# Altium integrated library rodgel.IntLib: 579 symbols (part 1 of 4)
Pins are listed as number, name and electrical type; pins without a type are passive.

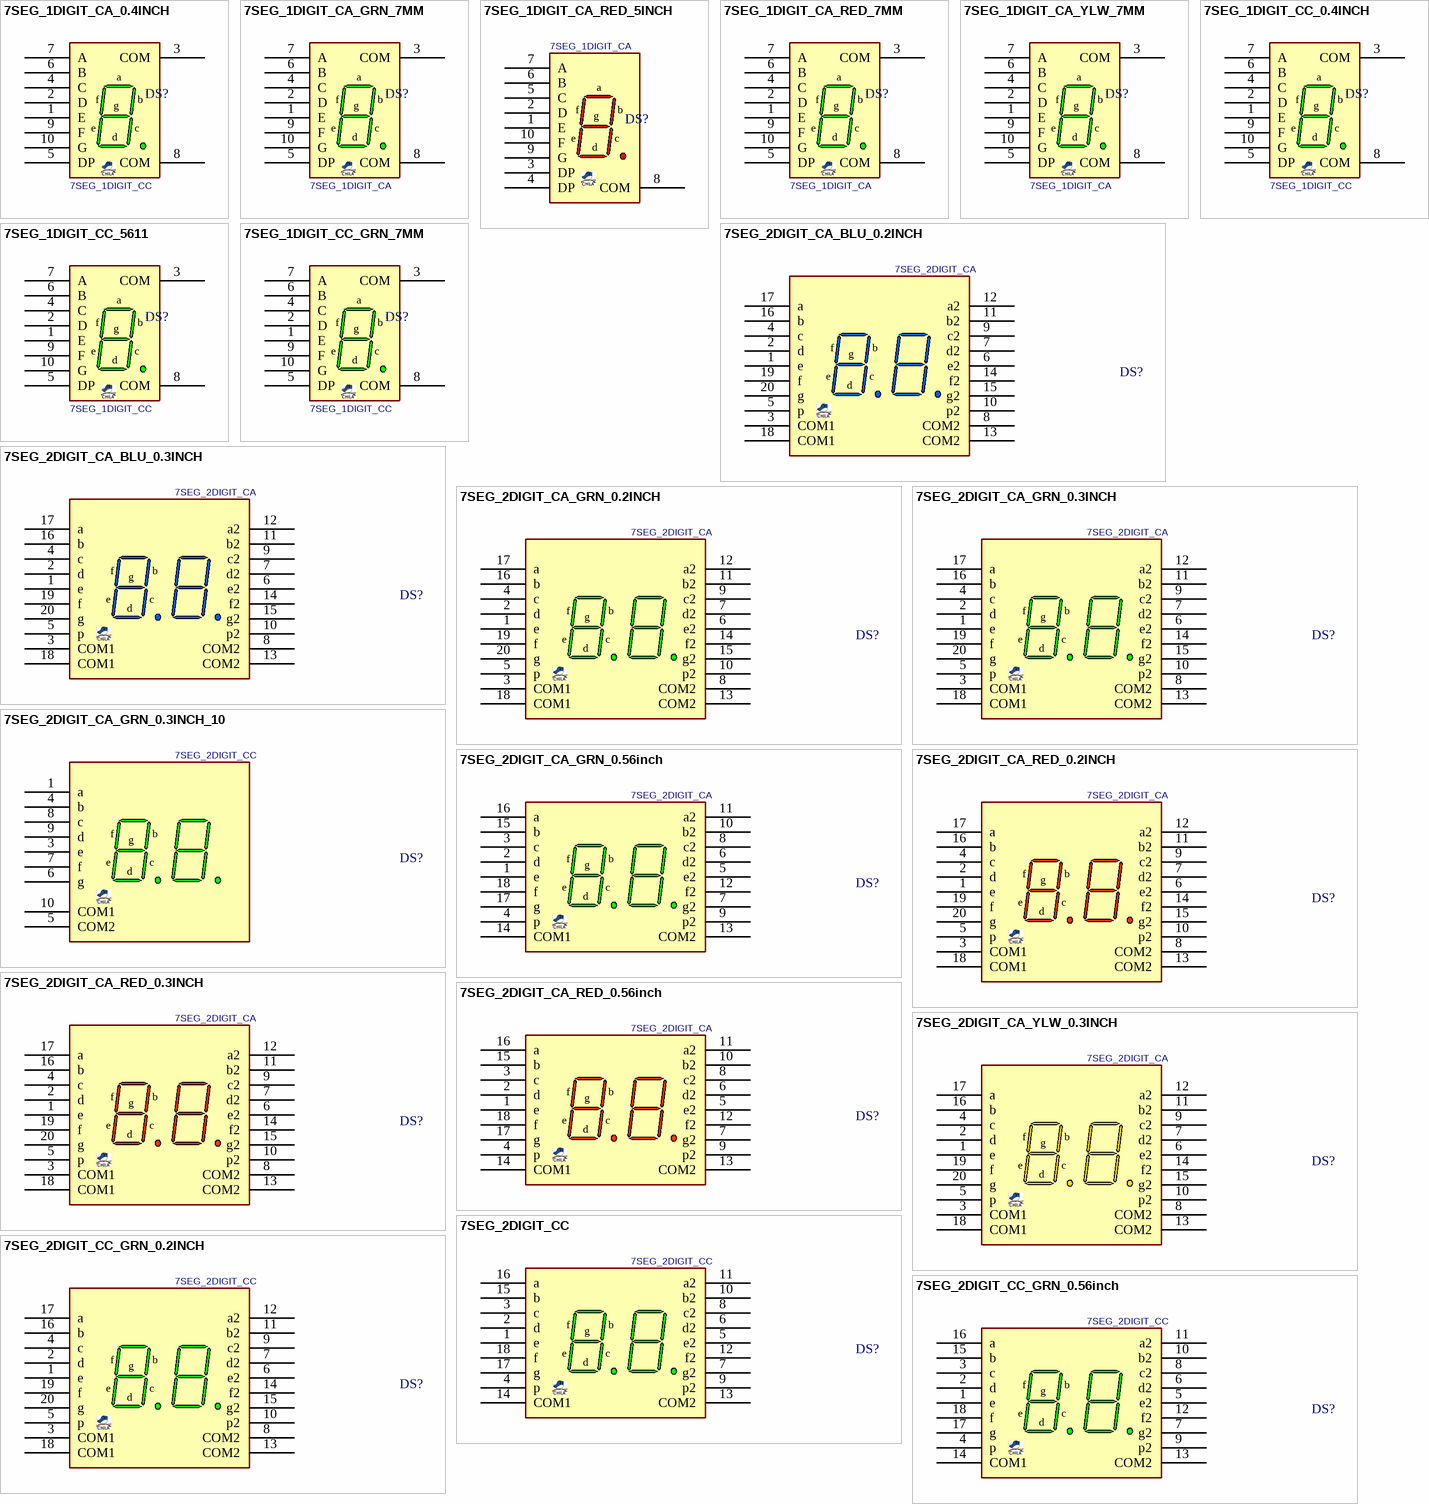
[diagram p0: symbols 7SEG_1DIGIT_CA_0.4INCH to 7SEG_2DIGIT_CC_GRN_0.56inch]

## 7SEG_1DIGIT_CA_0.4INCH
designator DS?, comment 7SEG_1DIGIT_CC
7SEGMENT, 1DIGIT, common cathode; VALUE: 7SEG_1DIGIT_CC
footprint 7SEGX1_10_3911 (7SEG single 10pin Pitch: 2.54mm  3911 0.39" 10X13mm)
pins: 1 E, 2 D, 3 COM, 4 C, 5 DP, 6 B, 7 A, 8 COM, 9 F, 10 G
2 alternate drawings of the same symbol

## 7SEG_1DIGIT_CA_GRN_7MM
designator DS?, comment 7SEG_1DIGIT_CA
7SEGMENT, 1DIGIT, common ANODE; MANF: Kingbright; MANF_P#: ACSA02-41SGWA-F01; PARAM: 20mA, 2.2v, -40~85oC; PRICE: 2.5$; VALUE: 7SEG_1DIGIT_CA
footprint 7SEGX1_10_02INCH (7SEG single 10pin Pitch: 1.44mm  0.2" 10X7mm)
pins: 1 E, 2 D, 3 COM, 4 C, 5 DP, 6 B, 7 A, 8 COM, 9 F, 10 G
2 alternate drawings of the same symbol

## 7SEG_1DIGIT_CA_RED_5INCH
designator DS?, comment 7SEG_1DIGIT_CA
7SEGMENT, 1DIGIT, common ANODE; MANF: Kingbright; MANF_P#: SA50-31SRWA, SA50-21EWA, SNS-50101BSR; PARAM2: 18.5~25VF; PARAM: 20mA, -40~85oC; PRICE: 30000t, 27$; VALUE: 7SEG_1DIGIT_CA
footprint 7SEGX1_5INCH (7SEG single 5INCH, 10pin, Pitch: 5.08mm, 180X108mm)
pins: 1 E, 2 D, 3 DP, 4 DP, 5 C, 6 B, 7 A, 8 COM, 9 G, 10 F
2 alternate drawings of the same symbol

## 7SEG_1DIGIT_CA_RED_7MM
designator DS?, comment 7SEG_1DIGIT_CA
7SEGMENT, 1DIGIT, common ANODE; MANF: Kingbright; MANF_P#: ACSC02-41SURKWA-F01, ACSA02-41SURKWA-F01, ACSA02-41EWA-F01; PARAM: 30mA, 2v, -40~85oC; PRICE: 2.5$; VALUE: 7SEG_1DIGIT_CA
footprint 7SEGX1_10_02INCH (7SEG single 10pin Pitch: 1.44mm  0.2" 10X7mm)
pins: 1 E, 2 D, 3 COM, 4 C, 5 DP, 6 B, 7 A, 8 COM, 9 F, 10 G
2 alternate drawings of the same symbol

## 7SEG_1DIGIT_CA_YLW_7MM
designator DS?, comment 7SEG_1DIGIT_CA
7SEGMENT, 1DIGIT, common ANODE; MANF: Kingbright; MANF_P#: ACSA02-41YWA-F01; PARAM: 20mA, 2.2v, -40~85oC; PRICE: 2.5$; VALUE: 7SEG_1DIGIT_CA
footprint 7SEGX1_10_02INCH (7SEG single 10pin Pitch: 1.44mm  0.2" 10X7mm)
pins: 1 E, 2 D, 3 COM, 4 C, 5 DP, 6 B, 7 A, 8 COM, 9 F, 10 G
2 alternate drawings of the same symbol

## 7SEG_1DIGIT_CC_0.4INCH
designator DS?, comment 7SEG_1DIGIT_CC
7SEGMENT, 1DIGIT, common cathode; VALUE: 7SEG_1DIGIT_CC
footprint 7SEGX1_10_3911 (7SEG single 10pin Pitch: 2.54mm  3911 0.39" 10X13mm)
pins: 1 E, 2 D, 3 COM, 4 C, 5 DP, 6 B, 7 A, 8 COM, 9 F, 10 G
2 alternate drawings of the same symbol

## 7SEG_1DIGIT_CC_5611
designator DS?, comment 7SEG_1DIGIT_CC
7SEGMENT, 1DIGIT, common cathode; VALUE: 7SEG_1DIGIT_CC
footprint 7SEGX1_5611 (7SEG single 10pin Pitch: 2.54mm  19X12.5mm)
pins: 1 E, 2 D, 3 COM, 4 C, 5 DP, 6 B, 7 A, 8 COM, 9 F, 10 G
2 alternate drawings of the same symbol

## 7SEG_1DIGIT_CC_GRN_7MM
designator DS?, comment 7SEG_1DIGIT_CC
7SEGMENT, 1DIGIT, common cathode; MANF: Kingbright; MANF_P#: ACSC02-41SGWA-F01, ACSC02-41CGKWA-F01; PARAM: 20mA, 2.2v, -40~85oC; PRICE: 2.5$; VALUE: 7SEG_1DIGIT_CC
footprint 7SEGX1_10_02INCH (7SEG single 10pin Pitch: 1.44mm  0.2" 10X7mm)
pins: 1 E, 2 D, 3 COM, 4 C, 5 DP, 6 B, 7 A, 8 COM, 9 F, 10 G
2 alternate drawings of the same symbol

## 7SEG_2DIGIT_CA_BLU_0.2INCH
designator DS?, comment 7SEG_2DIGIT_CA
7SEGMENT, 2DIGIT, common Anode; MANF: Kingbright; MANF_P#: ACDA02-41PBWA/A-F01; PARAM: 20mA, 3.2V, -40~85oC; PRICE: 7.6$; VALUE: 7SEG_2DIGIT_CA
footprint 7SEGX2_20_02INCH (7SEG 2DIGIT 20pin Pitch: 1.44mm  0.2", 14X10mm)
pins: 1 e, 2 d, 3 COM1, 4 c, 5 p, 6 e2, 7 d2, 8 COM2, 9 c2, 10 p2, 11 b2, 12 a2, 13 COM2, 14 f2, 15 g2, 16 b, 17 a, 18 COM1, 19 f, 20 g

## 7SEG_2DIGIT_CA_BLU_0.3INCH
designator DS?, comment 7SEG_2DIGIT_CA
7SEGMENT, 2DIGIT, common Anode; MANF: Kingbright; MANF_P#: ACDA03-41PBWA/A-F01; PARAM: 10~20mA, 2~2.2V, -40~85oC; PRICE: 7.6$; VALUE: 7SEG_2DIGIT_CA
footprint 7SEGX2_20_03INCH (7SEG 2DIGIT 20pin Pitch: 1.44mm  0.3", 14.8X12mm)
pins: 1 e, 2 d, 3 COM1, 4 c, 5 p, 6 e2, 7 d2, 8 COM2, 9 c2, 10 p2, 11 b2, 12 a2, 13 COM2, 14 f2, 15 g2, 16 b, 17 a, 18 COM1, 19 f, 20 g

## 7SEG_2DIGIT_CA_GRN_0.2INCH
designator DS?, comment 7SEG_2DIGIT_CA
7SEGMENT, 2DIGIT, common Anode; MANF: Kingbright; MANF_P#: ACDA02-41SGWA-F01; PARAM: 10~20mA, 2~2.2V, -40~85oC; PRICE: 3.3$; VALUE: 7SEG_2DIGIT_CA
footprint 7SEGX2_20_02INCH (7SEG 2DIGIT 20pin Pitch: 1.44mm  0.2", 14X10mm)
pins: 1 e, 2 d, 3 COM1, 4 c, 5 p, 6 e2, 7 d2, 8 COM2, 9 c2, 10 p2, 11 b2, 12 a2, 13 COM2, 14 f2, 15 g2, 16 b, 17 a, 18 COM1, 19 f, 20 g

## 7SEG_2DIGIT_CA_GRN_0.3INCH
designator DS?, comment 7SEG_2DIGIT_CA
7SEGMENT, 2DIGIT, common Anode; MANF: Kingbright; MANF_P#: ACDA03-41SGWA-F01; PARAM: 10~20mA, 2~2.2V, -40~85oC; PRICE: 5.8$; VALUE: 7SEG_2DIGIT_CA
footprint 7SEGX2_20_03INCH (7SEG 2DIGIT 20pin Pitch: 1.44mm  0.3", 14.8X12mm)
pins: 1 e, 2 d, 3 COM1, 4 c, 5 p, 6 e2, 7 d2, 8 COM2, 9 c2, 10 p2, 11 b2, 12 a2, 13 COM2, 14 f2, 15 g2, 16 b, 17 a, 18 COM1, 19 f, 20 g

## 7SEG_2DIGIT_CA_GRN_0.3INCH_10
designator DS?, comment 7SEG_2DIGIT_CC
7SEGMENT, 2DIGIT, common cathode; MANF: Kingbright; MANF_P#: DA03-11GWA; PARAM: 10~20mA, 2~2.2V, -40~85oC; PRICE: 1.8$; VALUE: 7SEG_2DIGIT_CC
footprint 7SEGX2_10_03INCH (7SEG 2DIGIT 10pin Pitch: 2.54mm  0.3", 15.5X15mm)
pins: 1 a, 3 e, 4 b, 5 COM2, 6 g, 7 f, 8 c, 9 d, 10 COM1

## 7SEG_2DIGIT_CA_GRN_0.56inch
designator DS?, comment 7SEG_2DIGIT_CA
7SEGMENT, 2DIGIT, common Anode; MANF: Broadcom, Avago, Lite-On, Kingbright; MANF_P#: HDSP-521G, LTD-6410G, DA56-11GWA; PARAM: 10~20mA, 2~2.2V, -35~85oC; PRICE: 2$; VALUE: 7SEG_2DIGIT_CA
footprint 7SEGX2_16 (7SEG 2DIGIT 16pin Pitch: 2.54mm    5621 0.56", 19X25mm)
pins: 1 e, 2 d, 3 c, 4 p, 5 e2, 6 d2, 7 g2, 8 c2, 9 p2, 10 b2, 11 a2, 12 f2, 13 COM2, 14 COM1, 15 b, 16 a, 17 g, 18 f

## 7SEG_2DIGIT_CA_RED_0.2INCH
designator DS?, comment 7SEG_2DIGIT_CA
7SEGMENT, 2DIGIT, common cathode; MANF: Kingbright; MANF_P#: ACDA02-41EWA-F01, ACDA02-41SURKWA-F01; PARAM: 10~20mA, 2~2.2V, -40~85oC; PRICE: 4.3$; VALUE: 7SEG_2DIGIT_CA
footprint 7SEGX2_20_02INCH (7SEG 2DIGIT 20pin Pitch: 1.44mm  0.2", 14X10mm)
pins: 1 e, 2 d, 3 COM1, 4 c, 5 p, 6 e2, 7 d2, 8 COM2, 9 c2, 10 p2, 11 b2, 12 a2, 13 COM2, 14 f2, 15 g2, 16 b, 17 a, 18 COM1, 19 f, 20 g

## 7SEG_2DIGIT_CA_RED_0.3INCH
designator DS?, comment 7SEG_2DIGIT_CA
7SEGMENT, 2DIGIT, common Anode; MANF: Kingbright; MANF_P#: ACDA03-41EWA-F01; PARAM: 10~20mA, 2~2.2V, -40~85oC; PRICE: 5.6$; VALUE: 7SEG_2DIGIT_CA
footprint 7SEGX2_20_03INCH (7SEG 2DIGIT 20pin Pitch: 1.44mm  0.3", 14.8X12mm)
pins: 1 e, 2 d, 3 COM1, 4 c, 5 p, 6 e2, 7 d2, 8 COM2, 9 c2, 10 p2, 11 b2, 12 a2, 13 COM2, 14 f2, 15 g2, 16 b, 17 a, 18 COM1, 19 f, 20 g

## 7SEG_2DIGIT_CA_RED_0.56inch
designator DS?, comment 7SEG_2DIGIT_CA
7SEGMENT, 2DIGIT, common Anode; MANF: Broadcom, Avago, Lite-On; MANF_P#: HDSP-521E, LTD-6910HR, LTD-6710P; PARAM: 10~20mA, 2~2.2V, -35~85oC; PRICE: 2$; VALUE: 7SEG_2DIGIT_CA
footprint 7SEGX2_16 (7SEG 2DIGIT 16pin Pitch: 2.54mm    5621 0.56", 19X25mm)
pins: 1 e, 2 d, 3 c, 4 p, 5 e2, 6 d2, 7 g2, 8 c2, 9 p2, 10 b2, 11 a2, 12 f2, 13 COM2, 14 COM1, 15 b, 16 a, 17 g, 18 f

## 7SEG_2DIGIT_CA_YLW_0.3INCH
designator DS?, comment 7SEG_2DIGIT_CA
7SEGMENT, 2DIGIT, common Anode; MANF: Kingbright; MANF_P#: ACDA03-41YWA-F01; PARAM: 10~20mA, 2~2.2V, -40~85oC; PRICE: 5.6$; VALUE: 7SEG_2DIGIT_CA
footprint 7SEGX2_20_03INCH (7SEG 2DIGIT 20pin Pitch: 1.44mm  0.3", 14.8X12mm)
pins: 1 e, 2 d, 3 COM1, 4 c, 5 p, 6 e2, 7 d2, 8 COM2, 9 c2, 10 p2, 11 b2, 12 a2, 13 COM2, 14 f2, 15 g2, 16 b, 17 a, 18 COM1, 19 f, 20 g

## 7SEG_2DIGIT_CC
designator DS?
7SEGMENT, 2DIGIT, common cathode; VALUE: 7SEG_2DIGIT_CC
footprint 7SEGX2_16 (7SEG 2DIGIT 16pin Pitch: 2.54mm    5621 0.56", 19X25mm)
pins: 1 e, 2 d, 3 c, 4 p, 5 e2, 6 d2, 7 g2, 8 c2, 9 p2, 10 b2, 11 a2, 12 f2, 13 COM2, 14 COM1, 15 b, 16 a, 17 g, 18 f

## 7SEG_2DIGIT_CC_GRN_0.2INCH
designator DS?, comment 7SEG_2DIGIT_CC
7SEGMENT, 2DIGIT, common cathode; MANF: Kingbright; MANF_P#: ACDC02-41SGWA-F01; PARAM: 10~20mA, 2~2.2V, -40~85oC; PRICE: 3.3$; VALUE: 7SEG_2DIGIT_CC
footprint 7SEGX2_20_02INCH (7SEG 2DIGIT 20pin Pitch: 1.44mm  0.2", 14X10mm)
pins: 1 e, 2 d, 3 COM1, 4 c, 5 p, 6 e2, 7 d2, 8 COM2, 9 c2, 10 p2, 11 b2, 12 a2, 13 COM2, 14 f2, 15 g2, 16 b, 17 a, 18 COM1, 19 f, 20 g

## 7SEG_2DIGIT_CC_GRN_0.56inch
designator DS?, comment 7SEG_2DIGIT_CC
7SEGMENT, 2DIGIT, common cathode; MANF: Broadcom, Avago; MANF_P#: HDSP-523G; PARAM: 10~20mA, 2~2.2V, -35~85oC; PRICE: 2$; VALUE: 7SEG_2DIGIT_CC
footprint 7SEGX2_16 (7SEG 2DIGIT 16pin Pitch: 2.54mm    5621 0.56", 19X25mm)
pins: 1 e, 2 d, 3 c, 4 p, 5 e2, 6 d2, 7 g2, 8 c2, 9 p2, 10 b2, 11 a2, 12 f2, 13 COM2, 14 COM1, 15 b, 16 a, 17 g, 18 f

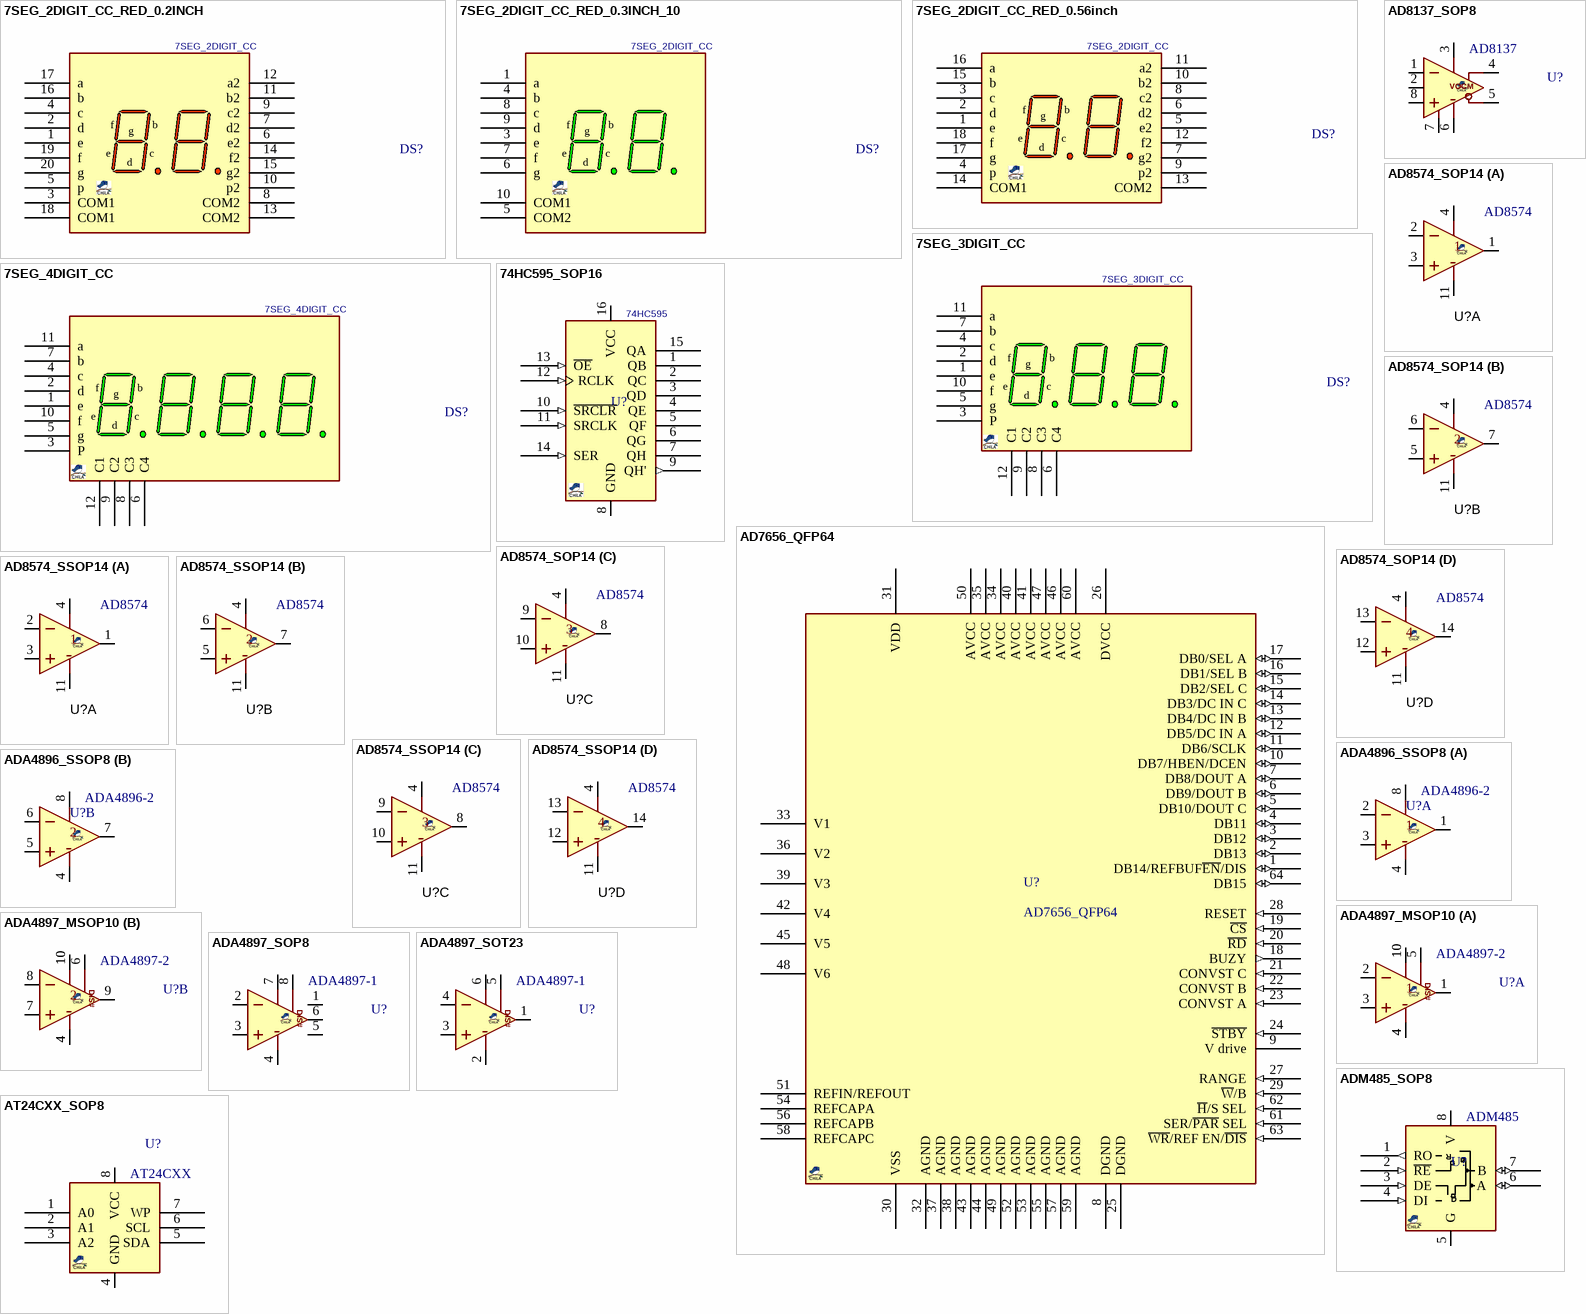
[diagram p1: symbols 7SEG_2DIGIT_CC_RED_0.2INCH to AT24CXX_SOP8]

## 7SEG_2DIGIT_CC_RED_0.2INCH
designator DS?, comment 7SEG_2DIGIT_CC
7SEGMENT, 2DIGIT, common cathode; MANF: Kingbright; MANF_P#: ACDC02-41SURKWA-F01; PARAM: 10~20mA, 2~2.2V, -40~85oC; PRICE: 4.3$; VALUE: 7SEG_2DIGIT_CC
footprint 7SEGX2_20_02INCH (7SEG 2DIGIT 20pin Pitch: 1.44mm  0.2", 14X10mm)
pins: 1 e, 2 d, 3 COM1, 4 c, 5 p, 6 e2, 7 d2, 8 COM2, 9 c2, 10 p2, 11 b2, 12 a2, 13 COM2, 14 f2, 15 g2, 16 b, 17 a, 18 COM1, 19 f, 20 g

## 7SEG_2DIGIT_CC_RED_0.3INCH_10
designator DS?, comment 7SEG_2DIGIT_CC
7SEGMENT, 2DIGIT, common cathode; MANF: Kingbright; MANF_P#: DC03-11EWA; PARAM: 10~20mA, 2~2.2V, -40~85oC; PRICE: 1.8$; VALUE: 7SEG_2DIGIT_CC
footprint 7SEGX2_10_03INCH (7SEG 2DIGIT 10pin Pitch: 2.54mm  0.3", 15.5X15mm)
pins: 1 a, 3 e, 4 b, 5 COM2, 6 g, 7 f, 8 c, 9 d, 10 COM1

## 7SEG_2DIGIT_CC_RED_0.56inch
designator DS?, comment 7SEG_2DIGIT_CC
7SEGMENT, 2DIGIT, common cathode; MANF: Broadcom, Avago; MANF_P#: HDSP-523E; PARAM: 10~20mA, 2~2.2V, -35~85oC; PRICE: 2$; VALUE: 7SEG_2DIGIT_CC
footprint 7SEGX2_16 (7SEG 2DIGIT 16pin Pitch: 2.54mm    5621 0.56", 19X25mm)
pins: 1 e, 2 d, 3 c, 4 p, 5 e2, 6 d2, 7 g2, 8 c2, 9 p2, 10 b2, 11 a2, 12 f2, 13 COM2, 14 COM1, 15 b, 16 a, 17 g, 18 f

## 7SEG_3DIGIT_CC
designator DS?
7SEGMENT, 3DIGIT, common cathode; VALUE: 7SEG_3DIGIT_CC
footprint 7SEGX3_12 (7SEG 3DIGIT 12pin Pitch: 2.54mm  5641 0.56", 19X37.5mm)
pins: 1 e, 2 d, 3 P, 4 c, 5 g, 6 C4, 7 b, 8 C3, 9 C2, 10 f, 11 a, 12 C1

## 7SEG_4DIGIT_CC
designator DS?
7SEGMENT, 4DIGIT, common cathode 5641; MANF_P#: DPY-4CK; VALUE: 7SEG_4DIGIT_CC
footprint 7SEGX4_12 (7SEG 4DIGIT 12pin Pitch: 2.54mm    5641 0.56", 19X50.3mm)
pins: 1 e, 2 d, 3 P, 4 c, 5 g, 6 C4, 7 b, 8 C3, 9 C2, 10 f, 11 a, 12 C1

## 74HC595_SOP16
designator U?, comment 74HC595
Shift Register, 8-Bit, with 3-State Output Registers; MANF: DIODES, ON, NXP; MANF_P#: 74HC595S16, 74HC595DR2G, 74HC595D; PARAM2: 2~6VIN; PARAM: 8mA; VALUE: 74HC595
footprint SO_16 (SOP, SOIC, 3.9mm width, 1.27mm pitch,)
pins: 1 QB (hiz), 2 QC (hiz), 3 QD (hiz), 4 QE (hiz), 5 QF (hiz), 6 QG (hiz), 7 QH (hiz), 8 GND (power), 9 QH' (out), 10 ~{SRCLR} (in), 11 SRCLK (in), 12 RCLK (in), 13 ~{OE} (in), 14 SER (in), 15 QA (hiz), 16 VCC (power)

## AD7656_QFP64
designator U?
ADC, 16-bit, 250Ksps, 6CH, SAR, simultaneous; DESC: pin compatible AD7656-16bit, AD7657-14bit, AD7658-12bit; MANF: Analog Devices; VALUE: AD7656
footprint QFG50_64 (A64 (CYPRESS), TQFP64, LQFP64, VQ44, VQG44, 10X10mm, Pitch: 0.5mm)
pins: 1 DB14/REFBUF~{EN}/DIS (io), 2 DB13 (io), 3 DB12 (io), 4 DB11 (io), 5 DB10/DOUT C (io), 6 DB9/DOUT B (io), 7 DB8/DOUT A (io), 8 DGND, 9 V drive, 10 DB7/HBEN/DCEN (io), 11 DB6/SCLK (io), 12 DB5/DC IN A (io), 13 DB4/DC IN B (io), 14 DB3/DC IN C (io), 15 DB2/SEL C (io), 16 DB1/SEL B (io), 17 DB0/SEL A (io), 18 BUZY (out), 19 ~{CS} (in), 20 ~{RD} (in), 21 CONVST C (in), 22 CONVST B (in), 23 CONVST A (in), 24 ~{STBY} (in), 25 DGND, 26 DVCC, 27 RANGE (in), 28 RESET (in), 29 ~{W}/B (in), 30 VSS, 31 VDD, 32 AGND, 33 V1 (hiz), 34 AVCC, 35 AVCC, 36 V2 (hiz), 37 AGND, 38 AGND, 39 V3 (hiz), 40 AVCC, 41 AVCC, 42 V4 (hiz), 43 AGND, 44 AGND, 45 V5 (hiz), 46 AVCC, 47 AVCC, 48 V6 (hiz), 49 AGND, 50 AVCC, 51 REFIN/REFOUT, 52 AGND, 53 AGND, 54 REFCAPA, 55 AGND, 56 REFCAPB, 57 AGND, 58 REFCAPC, 59 AGND, 60 AVCC, 61 SER/~{PAR} SEL (in), 62 ~{H}/S SEL (in), 63 ~{WR}/REF EN/~{DIS} (in), 64 DB15 (io)

## AD8137_SOP8
designator U?, comment AD8137
AMP, Differential, LowCost, LowPWR; MANF: Analog Devices; MANF_P#: AD8137YRZ; PARAM2: 2.7~12v (±1.35~6V); PARAM: BW 110MHz, 450V/uS, -40~125°C; PRICE: 2.8$; VALUE: AD8137
footprint SO_8
pins: 1 IN-, 2 OCM (power), 3 V+, 4 OP, 5 ON, 6 V-, 7 EN, 8 IN+
text: VOCM

## AD8574_SOP14
designator U?, comment AD8574
AMP, Quad, Zero-Drift, Single-Supply, 10pA input; MANF: Analog Devices Inc; MANF_P#: AD8574ARZ; PARAM2: 2.7~5V; PARAM: 1uV OFFSET, 10pA input, -40~125°C; PRICE: 7.3$; VALUE: AD8574
footprint SO_14 (SOP, SOIC, 3.9mm width, 1.27mm pitch,)
part A pins: 1 OUT, 2 IN-, 3 IN+, 4 V+, 11 V-
part B pins: 4 V+, 5 IN+, 6 IN-, 7 OUT, 11 V-
part C pins: 4 V+, 8 OUT, 9 IN-, 10 IN+, 11 V-
part D pins: 4 V+, 11 V-, 12 IN+, 13 IN-, 14 OUT

## AD8574_SSOP14
designator U?, comment AD8574
AMP, Quad, Zero-Drift, Single-Supply, 10pA input; MANF: Analog Devices Inc; MANF_P#: AD8574TRU; PARAM2: 2.7~5V; PARAM: 1uV OFFSET, 10pA input, -40~125°C; PRICE: 7.3$; VALUE: AD8574
footprint SOG65_14 (PW TSSOP (TI), MO-153-AB (JEDEC), 14Lead, pitch: 0.65mm, 5x4.4x1.2mm)
part A pins: 1 OUT, 2 IN-, 3 IN+, 4 V+, 11 V-
part B pins: 4 V+, 5 IN+, 6 IN-, 7 OUT, 11 V-
part C pins: 4 V+, 8 OUT, 9 IN-, 10 IN+, 11 V-
part D pins: 4 V+, 11 V-, 12 IN+, 13 IN-, 14 OUT

## ADA4896_SSOP8
designator U?, comment ADA4896-2
AMP, Low Noise, LowPower, LowDistortion; MANF: Analog Devices; MANF_P#: ADA4896-2ARMZ; PARAM2: 3~10v,  1nV/√Hz, 230MHz BW; PARAM: 3mA power, -40~125°C; PRICE: 7.7$; VALUE: ADA4896-2
footprint SOG65_8_3 (pitch: 0.65mm, 3.0mmX3.0mm, SSOP DCT SM8 (TI), TSSOP8, MICRO8, DGK, MSOP8, RM-8, MS8, MSOP-8, usop8/8uSOP)
pins on every part: 4 V-, 8 V+
part A pins: 1 OUT, 2 IN-, 3 IN+
part B pins: 5 IN+, 6 IN-, 7 OUT

## ADA4897_MSOP10
designator U?, comment ADA4897-2
AMP, Low Noise, LowPower, LowDistortion; MANF: Analog Devices; MANF_P#: ADA4897-2ARMZ; PARAM2: 3~10v,  1nV/√Hz, 230MHz BW; PARAM: 3mA power, -40~125°C; PRICE: 7.7$; VALUE: ADA4897-2
footprint SOG50_10 (MSSOP10, 3X3mm 0.5mm pitch, S-PDSO10_S300-50, MSOP10, 10uSOP/usop10 (Dallas), MO-187BA(JEDEC))
pins on every part: 4 V-, 4 V-, 10 V+, 10 V+
part A pins: 1 OUT, 2 IN-, 3 IN+, 5 DISABLE1#
part B pins: 6 DISABLE1#, 7 IN+, 8 IN-, 9 OUT
part A text: DIS#
part B text: DIS#

## ADA4897_SOP8
designator U?, comment ADA4897-1
AMP, Low Noise, LowPower, LowDistortion; MANF: Analog Devices; MANF_P#: ADA4897-1ARZ; PARAM2: 3~10v,  1nV/√Hz, 230MHz BW; PARAM: 3mA power, -40~125°C; PRICE: 5$; VALUE: ADA4897-1
footprint SO_8 (SOP-8, 5x3.9mm body 1.27mm pitch, SOT96-1, M08A, S8, SOIC8, VO8, MS-012AA(JEDEC), R-8, 8S2, VOG8)
pins: 1 NC, 2 IN-, 3 IN+, 4 V-, 5 NC, 6 OUT, 7 V+, 8 DISABLE#
text: DIS#

## ADA4897_SOT23
designator U?, comment ADA4897-1
AMP, Low Noise, LowPower, LowDistortion; MANF: Analog Devices; MANF_P#: ADA4897-1ARJZ; PARAM2: 3~10v,  1nV/√Hz, 230MHz BW; PARAM: 3mA power, -40~125°C; PRICE: 6$; VALUE: ADA4897-1
footprint SOT23_6 (SOT-23-6, DDC, MICRO6, SOT-26, SOT457, SuperSOT6, TSOP-6, HMC313, MO-178AB, MO-193AA, TSOT)
pins: 1 OUT, 2 V-, 3 IN+, 4 IN-, 5 DISABLE#, 6 V+
text: DIS#

## ADM485_SOP8
designator U?, comment ADM485
RS-485 Transceiver, 5V, SOP-8, ±7V Ground Difference Between Devices on the Bus; MANF_P#: ADM485AR; MANF: Analog Devices; PRICE: 4000toman@PAYA; VALUE: ADM485
footprint SO_8
pins: 1 RO (out), 2 ~{RE} (in), 3 DE (in), 4 DI (in), 5 G, 6 A (io), 7 B (io), 8 V
text: R; D

## AT24CXX_SOP8
designator U?, comment AT24CXX
EEPROM, I2C,; Value: AT24CXX
footprint SO_8
pins: 1 A0, 2 A1, 3 A2, 4 GND, 5 SDA, 6 SCL, 7 WP, 8 VCC

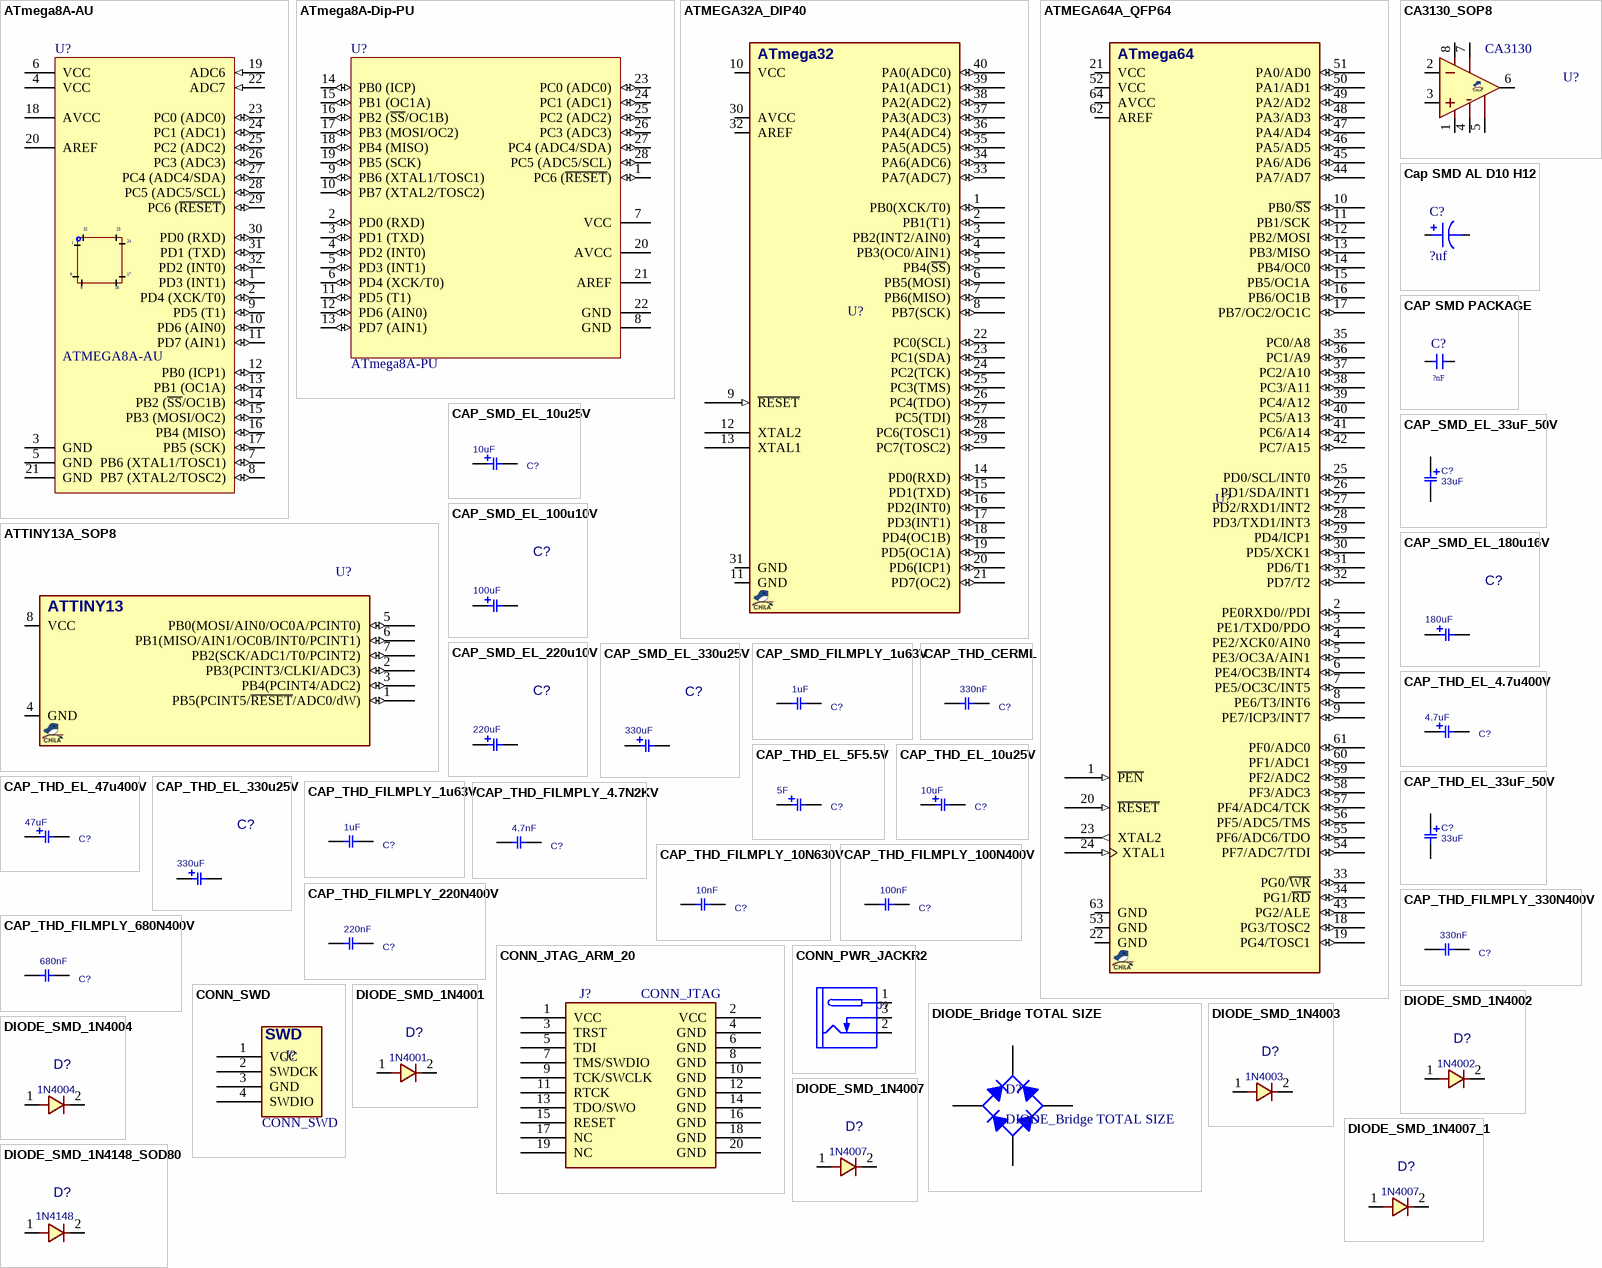
[diagram p2: symbols ATmega8A-AU to DIODE_SMD_1N4148_SOD80]

## ATmega8A-AU
designator U?  value ATMEGA8A-AU
8-bit AVR Microcontroller, 8KB Flash, 512 Bytes EEPROM, 1KB SRAM, 32-pin TQFP, Industrial Grade (-40°C to 85°C); Desc: 32A; Code Anbar: h.k; Category: IC; Package: TQFP32
footprint TQFP32 @ (TQFP, 32-Leads, Body 9.3x9.3mm (max), Pitch 0.80mm, IPC Medium Density)
pins: 1 PD3 (INT1) (io), 2 PD4 (XCK/T0) (io), 3 GND (power), 4 VCC (power), 5 GND (power), 6 VCC (power), 7 PB6 (XTAL1/TOSC1) (io), 8 PB7 (XTAL2/TOSC2) (io), 9 PD5 (T1) (io), 10 PD6 (AIN0) (io), 11 PD7 (AIN1) (io), 12 PB0 (ICP1) (io), 13 PB1 (OC1A) (io), 14 PB2 (~{SS}/OC1B) (io), 15 PB3 (MOSI/OC2) (io), 16 PB4 (MISO) (io), 17 PB5 (SCK) (io), 18 AVCC (power), 19 ADC6 (in), 20 AREF (power), 21 GND (power), 22 ADC7 (in), 23 PC0 (ADC0) (io), 24 PC1 (ADC1) (io), 25 PC2 (ADC2) (io), 26 PC3 (ADC3) (io), 27 PC4 (ADC4/SDA) (io), 28 PC5 (ADC5/SCL) (io), 29 PC6 (~{RESET}) (io), 30 PD0 (RXD) (io), 31 PD1 (TXD) (io), 32 PD2 (INT0) (io)

## ATmega8A-Dip-PU
designator U?, comment ATmega8A-PU
8-bit AVR Microcontroller, 8KB Flash, 512 Bytes EEPROM, 1KB SRAM, 28-pin PDIP, Industrial Grade (-40°C to 85°C); Published: 2017-1-5; DatasheetVersion: 2017-1-5; PackageVersion: 2017-1-5; PackageReference: 28P3; Publisher: Abbas Basereh; PackageDescription: 28-lead (0.300"/7.62mm Wide) Plastic Dual Inline Package (PDIP); Supplier 1: Digi-Key; Supplier Part Number 1: ATMEGA8A-PU-ND; Supplier 2: Farnell; Supplier Part Number 2: 1748534; Supplier 3: Mouser; Supplier Part Number 3: 556-ATMEGA8A-PU; ComponentLink1Description: Manufacturer Link; ComponentLink1URL: http://www.atmel.com/products/avr/default.asp?; ComponentLink2Description: ATmega8A Datasheet; ComponentLink2URL: http://www.atmel.com/dyn/resources/prod_documents/doc8159.pdf; ComponentLink3Description: ATmega8A Summary; ComponentLink3URL: http://www.atmel.com/dyn/resources/prod_documents/8159S.pdf; ComponentLink4Description: Atmel.com Home; ComponentLink4URL: http://www.atmel.com
footprint 28P3 (DIP, 28-Leads, Row Spacing 7.62mm, Pitch 2.54mm, Body 34.67x7.3mm)
pins: 1 PC6 (~{RESET}) (io), 2 PD0 (RXD) (io), 3 PD1 (TXD) (io), 4 PD2 (INT0) (io), 5 PD3 (INT1) (io), 6 PD4 (XCK/T0) (io), 7 VCC (power), 8 GND (power), 9 PB6 (XTAL1/TOSC1) (io), 10 PB7 (XTAL2/TOSC2) (io), 11 PD5 (T1) (io), 12 PD6 (AIN0) (io), 13 PD7 (AIN1) (io), 14 PB0 (ICP) (io), 15 PB1 (OC1A) (io), 16 PB2 (~{SS}/OC1B) (io), 17 PB3 (MOSI/OC2) (io), 18 PB4 (MISO) (io), 19 PB5 (SCK) (io), 20 AVCC (power), 21 AREF, 22 GND (power), 23 PC0 (ADC0) (io), 24 PC1 (ADC1) (io), 25 PC2 (ADC2) (io), 26 PC3 (ADC3) (io), 27 PC4 (ADC4/SDA) (io), 28 PC5 (ADC5/SCL) (io)

## ATMEGA32A_DIP40
designator U?, comment ATMEGA32  (value not drawn)
MCU, AVR, 8-Bit, 32KB, 2KB RAM, 16MHz; MANF_P#: ATMEGA32A-PU; DESC: 1KB EEPROM; MANF: ATMEL/MICROCHIP; PARAM2: 2.7~5.5V; PARAM: 32KB, 2KB RAM, 16MHz, -40~85°C; PRICE: 3.5$; VALUE: ATMEGA32
footprint DIP_40DW (DIP, pitch 2.54mm, 600mil Width)
pins: 1 PB0(XCK/T0) (io), 2 PB1(T1) (io), 3 PB2(INT2/AIN0) (io), 4 PB3(OC0/AIN1) (io), 5 PB4(~{SS}) (io), 6 PB5(MOSI) (io), 7 PB6(MISO) (io), 8 PB7(SCK) (io), 9 ~{RESET} (in), 10 VCC (power), 11 GND (power), 12 XTAL2, 13 XTAL1, 14 PD0(RXD) (io), 15 PD1(TXD) (io), 16 PD2(INT0) (io), 17 PD3(INT1) (io), 18 PD4(OC1B) (io), 19 PD5(OC1A) (io), 20 PD6(ICP1) (io), 21 PD7(OC2) (io), 22 PC0(SCL) (io), 23 PC1(SDA) (io), 24 PC2(TCK) (io), 25 PC3(TMS) (io), 26 PC4(TDO) (io), 27 PC5(TDI) (io), 28 PC6(TOSC1) (io), 29 PC7(TOSC2) (io), 30 AVCC (power), 31 GND (power), 32 AREF (power), 33 PA7(ADC7) (io), 34 PA6(ADC6) (io), 35 PA5(ADC5) (io), 36 PA4(ADC4) (io), 37 PA3(ADC3) (io), 38 PA2(ADC2) (io), 39 PA1(ADC1) (io), 40 PA0(ADC0) (io)
text: ATmega32

## ATMEGA64A_QFP64
designator U?, comment ATMEGA64  (value not drawn)
MCU, AVR, 8-Bit, 64KB, 4KB RAM, 16MHz; MANF_P#: ATMEGA64A-AU; DESC: 2KB EEPROM; MANF: ATMEL/MICROCHIP; PARAM2: 2.7~5.5V; PARAM: 64KB, 4KB RAM, 16MHz, -40~85°C; PRICE: 4.5$; VALUE: ATMEGA64
footprint QFG80_64 (TQFP64, N65 (Cypress), , MS-026 AEB(JEDEC), 64A (atmel), 14X14mm, 0.8mm)
pins: 1 ~{PEN} (in), 2 PE0RXD0//PDI (io), 3 PE1/TXD0/PDO (io), 4 PE2/XCK0/AIN0 (io), 5 PE3/OC3A/AIN1 (io), 6 PE4/OC3B/INT4 (io), 7 PE5/OC3C/INT5 (io), 8 PE6/T3/INT6 (io), 9 PE7/ICP3/INT7 (io), 10 PB0/~{SS} (io), 11 PB1/SCK (io), 12 PB2/MOSI (io), 13 PB3/MISO (io), 14 PB4/OC0 (io), 15 PB5/OC1A (io), 16 PB6/OC1B (io), 17 PB7/OC2/OC1C (io), 18 PG3/TOSC2 (io), 19 PG4/TOSC1 (io), 20 ~{RESET} (in), 21 VCC (power), 22 GND (power), 23 XTAL2 (out), 24 XTAL1 (in), 25 PD0/SCL/INT0 (io), 26 PD1/SDA/INT1 (io), 27 PD2/RXD1/INT2 (io), 28 PD3/TXD1/INT3 (io), 29 PD4/ICP1 (io), 30 PD5/XCK1 (io), 31 PD6/T1 (io), 32 PD7/T2 (io), 33 PG0/~{WR} (io), 34 PG1/~{RD} (io), 35 PC0/A8 (io), 36 PC1/A9 (io), 37 PC2/A10 (io), 38 PC3/A11 (io), 39 PC4/A12 (io), 40 PC5/A13 (io), 41 PC6/A14 (io), 42 PC7/A15 (io), 43 PG2/ALE (io), 44 PA7/AD7 (io), 45 PA6/AD6 (io), 46 PA5/AD5 (io), 47 PA4/AD4 (io), 48 PA3/AD3 (io), 49 PA2/AD2 (io), 50 PA1/AD1 (io), 51 PA0/AD0 (io), 52 VCC (power), 53 GND (power), 54 PF7/ADC7/TDI (io), 55 PF6/ADC6/TDO (io), 56 PF5/ADC5/TMS (io), 57 PF4/ADC4/TCK (io), 58 PF3/ADC3 (io), 59 PF2/ADC2 (io), 60 PF1/ADC1 (io), 61 PF0/ADC0 (io), 62 AREF (power), 63 GND (power), 64 AVCC (power)
text: ATmega64

## ATTINY13A_SOP8
designator U?, comment ATTINY13  (value not drawn)
MCU, AVR, 8-Bit, 1KB, 64B RAM, 20MHz; MANF_P#: ATTINY13A-SSU, ATTINY13A-SSH; MANF: ATMEL/MICROCHIP; PARAM2: 1.8~5.5V; PARAM: 1KB, 64B RAM, -40~85°C; PRICE: 0.9$; VALUE: ATTINY13
footprint SO_8 (SOP-8, 5x3.9mm body 1.27mm pitch, SOT96-1, M08A, S8, SOIC8, VO8, MS-012AA(JEDEC), R-8, 8S2, VOG8)
pins: 1 PB5(PCINT5/~{RESET}/ADC0/dW) (io), 2 PB3(PCINT3/CLKI/ADC3) (io), 3 PB4(PCINT4/ADC2) (io), 4 GND (power), 5 PB0(MOSI/AIN0/OC0A/PCINT0) (io), 6 PB1(MISO/AIN1/OC0B/INT0/PCINT1) (io), 7 PB2(SCK/ADC1/T0/PCINT2) (io), 8 VCC (power)

## CA3130_SOP8
designator U?, comment CA3130
AMP, 15MHz, BiMOS, MOSFET Input/CMOS Output; MANF: Intresil; MANF_P#: CA3130AM; PARAM2: 5~16V, ±2.5~±8V; VALUE: CA3130
footprint SO_8
pins: 1 OFFSET_NULL, 2 IN-, 3 IN+, 4 V-, 5 OFFSET_NULL, 6 OUT, 7 V+, 8 STROBE

## Cap SMD AL D10 H12
designator C?, comment ?uf
SMT Polarised Capacitor; Designer: javati; Desc: 16/10; Value: 1000uF; Category: Capacitor; Package: ALU SMD; Code Anbar: *
footprint CAP AL SMD D10 H12 @ (Electrolytic Cap, 10.3mm, L: 12.4mm)
pins: 1, 2

## CAP SMD PACKAGE
designator C?  value ?nF
TOTAL CAPACITOR SMD PACK; Designer: Abbas Basereh; Category: Capacitor; Package: all package
footprint CAP0201 (Chip Capacitor, 2-Leads, Body 0/60x0/30mm, IPC Medium Density DESIGNER:ABBAS BASEREH)
footprint CAP0402 (Chip Capacitor, 2-Leads, Body 1/00x0/50mm, IPC Medium Density DESIGNER:ABBAS BASEREH)
footprint CAP0603 (Chip Capacitor, 2-Leads, Body 1/60x0/80mm, IPC Medium Density DESIGNER:ABBAS BASEREH)
footprint CAP0805 (Chip Capacitor, 2-Leads, Body 2/00x1/25mm, IPC Medium Density DESIGNER:ABBAS BASEREH)
footprint CAP1210 (Chip Capacitor, 2-Leads, Body 3/20x2/50mm, IPC Medium Density DESIGNER:ABBAS BASEREH)
footprint CAP1812 (Chip Capacitor, 2-Leads, Body 4/50x3/20mm, IPC Medium Density DESIGNER:ABBAS BASEREH)
footprint CAP2010 (Chip Capacitor, 2-Leads, Body 5/00x2/50mm, IPC Medium Density DESIGNER:ABBAS BASEREH)
footprint CAP2512 (Chip Capacitor, 2-Leads, Body 6/40x3/20mm, IPC Medium Density DESIGNER:ABBAS BASEREH)
footprint Model Name (Footprint not found)
footprint CAP 1206 @ (Chip Capacitor, 2-Leads, Body 3.25x1.60mm, IPC Medium Density)
pins: 1, 2

## CAP_SMD_EL_10u25V
designator C?, comment 10uF
CAP, SMD, ELEC, 10uF, 25V; MANF_P#: MANF_PART#; PARAM: 25V; MANF: MANF; PARAM2: PARAM2; VALUE: 10uF
footprint C_EL_4_5 (Electrolytic Cap, D: 4.3mm, Size B, 5.5mm Height)
pins: 1, 2

## CAP_SMD_EL_33uF_50V
designator C?, comment 33uF
CAP, THD, ELEC; PARAM: 20%, 40mOhm, -55~125oC; DESC: Aluminum Organic Polymer; MANF: United Chemi-Con; MANF_P#: HHXB500ARA330MF80G; PARAM2: 50V; PRICE: 0.14$; VALUE: 33uF
footprint C_EL_6_8 (Footprint not found)
pins: 1, 2

## CAP_SMD_EL_100u10V
designator C?, comment 100uF
CAP, SMDD, ELEC, 100uF, 10V; MANF_P#: 875105242010; MANF: Wurth Electronics; DESC: Aluminum Organic Polymer; DIST#: MOUSER; PARAM: 20%, 30mOhmESR, -55~105oC; PRICE: 0.56$; PARAM2: 10V; ASSEMBLY: ASSEMBLY; VALUE: 100uF
footprint C_EL_5 (Electrolytic Cap, D: 5.0mm, L: 5.8mm, Size C)
pins: 1, 2

## CAP_SMD_EL_180u16V
designator C?, comment 180uF
CAP, SMD, ELEC,; MANF_P#: 16SVPE180M; PARAM2: 16V; MANF: Panasonic; DESC: Aluminum Organic Polymer; DIST#: MOUSER; PARAM: 20%, 11mOhmESR, -55~105oC; PRICE: 0.8$; ASSEMBLY: ASSEMBLY; VALUE: 180uF
footprint C_EL_6_8 (Electrolytic Cap, D: 6.3mm L: 7.7mm, Size D)
pins: 1, 2

## CAP_SMD_EL_220u10V
designator C?, comment 220uF
CAP, SMDD, ELEC, 220uF, 10V; MANF_P#: 875105244013; MANF: Wurth Electronics; DESC: Aluminum Organic Polymer; DIST#: MOUSER; PARAM: 20%, 30mOhmESR, -55~105oC; PRICE: 0.66$; PARAM2: 10V; ASSEMBLY: ASSEMBLY; VALUE: 220uF
footprint C_EL_6_6 (Electrolytic Cap, D: 6.3mm L: 5.8mm, Size D)
pins: 1, 2

## CAP_SMD_EL_330u25V
designator C?, comment 330uF
CAP, SMDD, ELEC, 330uF, 25V; MANF_P#: EEE-1EA331UP; PARAM2: 20%; MANF: PANASONIC; DESC: DESCRIPTION; DIST#: MOUSER; PRICE: 10= 5$; ASSEMBLY: ASSEMBLY; PARAM: 25V; VALUE: 330uF
footprint C_EL_8 (Electrolytic Capacitor, Size E, Size F, 8X10)
pins: 1, 2

## CAP_SMD_FILMPLY_1u63V
designator C?, comment 1uF
CAP, FILM; PARAM: PET, 10%, -55~125oC; DESC: CAP, FILM,; MANF_P#: SMDTC04100QB00KQ00; MANF: WIMA; PARAM2: 63VDC/40VAC; PRICE: 2$; ASSEMBLY: ASSEMBLY; VALUE: 1uF
footprint C2225 (Chip Capacitor, 5.6x6.4mm, 2225, 5664, 2220)
pins: 1, 2

## CAP_THD_CERML
designator C?, comment 330nF
CAP, THD, CER MULTI LAYER,; PARAM: 50V; DESC: CAP, CER MULTI LAYER,; MANF_P#: MANF_PART#; PRICE: 100= 1$; MANF: MANF; PARAM2: PARAM2; ASSEMBLY: ASSEMBLY; VALUE: 330nF
footprint C_CER_D3 (CAP, CER MULTILAYER, D:3.5mm, pitch: 2.54mm)
footprint C_CER_D5 (CAP, CER, D:5mm, pitch: 2.5mm)
footprint C_CER_D6A (CAP, CER MULTILAYER, 5.8X1.7mm, pitch: 2.5mm)
footprint C_CER_D6B (CAP, CER MULTILAYER, 6X2mm, pitch: 5mm)
footprint C_CER_D7A (CAP, CER MULTILAYER, 7.0X1.7mm, pitch: 5.0mm)
footprint C_CER_D7B (CAP, CER MULTILAYER, 7.0X2.6mm, pitch: 5.0mm)
footprint C_CER_D10 (CAP, CER MULTILAYER, 12X4mm, pitch: 7.5mm)
footprint C_CER_D12 (CAP, CER MULTILAYER, 12X4mm, pitch: 7.5mm)
footprint C_CER_M4 (CAP, CER MULTILAYER, 4.2X2.0mm, pitch: 5.0mm, TDK FK24)
footprint C_CER_M5 (CAP, CER MULTILAYER, 5.0X2.5mm, pitch: 2.5mm, RAD0.1)
pins: 1, 2

## CAP_THD_EL_4.7u400V
designator C?, comment 4.7uF
CAP, ELEC; PARAM: 400V; MANF_P#: MANF_PART#; MANF: MANF; PARAM2: PARAM2; VALUE: 4.7uF
footprint C_EL_10X16 (Cap Elec, D10.0X16.0H pitch: 5.0mm)
footprint C_EL_10X16_R (Cap Elec, D10.0X16.0H pitch: 5.0mm)
pins: 1, 2

## CAP_THD_EL_5F5.5V
designator C?, comment 5F
CAP, SMD, ELEC, 5F, 5.5V; MANF: Illinois Capacitor; MANF_P#: DGH505Q5R5; PARAM: 5F; PARAM2: 5.5V; PRICE: 4.6$; VALUE: 5F
footprint C_EL_26X13X27 (Cap Elec, 26X13X27mm, 18mm pitch)
pins: 1, 2

## CAP_THD_EL_10u25V
designator C?, comment 10uF
CAP, THD, ELEC, 10uF, 25V; MANF_P#: MANF_PART#; PARAM: 25V; MANF: MANF; PARAM2: PARAM2; VALUE: 10uF
footprint C_EL_4X7 (Cap Elec dia:4mm height: 7mm pitch: 1.5mm)
pins: 1, 2

## CAP_THD_EL_33uF_50V
designator C?, comment 33uF
CAP, THD, ELEC; PARAM: 20%, -40~105oC; DESC: Aluminum Electrolytic Capacitors; MANF: Wurth Electronics; MANF_P#: 860020672012; PARAM2: 50V; PRICE: 0.14$; VALUE: 33uF
footprint C_EL_5X11 (Cap Elec, D5.0X11.0H pitch: 2mm)
pins: 1, 2

## CAP_THD_EL_47u400V
designator C?, comment 47uF
CAP, ELEC; PARAM: 400V; MANF_P#: MANF_PART#; MANF: MANF; PARAM2: PARAM2; VALUE: 47uF
footprint C_EL_16X25 (Cap Elec, D16.0X25.0H pitch: 7.6mm, RB.3/.6)
footprint C_EL_10X16_R (Cap Elec, D10.0X16.0H pitch: 5.0mm)
pins: 1, 2

## CAP_THD_EL_330u25V
designator C?, comment 330uF
CAP, THD, ELEC, 330uF, 25V; MANF_P#: EEE-1EA331UP; PARAM2: 20%; MANF: PANASONIC; DESC: DESCRIPTION; DIST#: MOUSER; PRICE: 10= 5$; ASSEMBLY: ASSEMBLY; PARAM: 25V; VALUE: 330uF
footprint C_EL_8X12 (Cap Elec dia:8mm height: 12mm pitch: 3.5mm)
pins: 1, 2

## CAP_THD_FILMPLY_1u63V
designator C?, comment 1uF
CAP, FILM; PARAM: PET, 5%, AEC-Q200, -55~125oC; DESC: CAP, FILM,; MANF_P#: MKS2C041001F00JA00; MANF: WIMA; PARAM2: 63VDC/40VAC; PRICE: 0.37$; ASSEMBLY: ASSEMBLY; VALUE: 1uF
footprint C_PLY_7X5X10 (CAP, POLYESTER, 7.0X5.0x10mm pitch: 5.0mm)
pins: 1, 2

## CAP_THD_FILMPLY_4.7N2KV
designator C?, comment 4.7nF
CAP, FILM, 4.7nF, 2KV; PARAM: 5%, -55~105°C; MANF_P#: R747I1470AA00J; MANF: KEMET; PRICE: 0.6$; DESC: CAP, FILM,; PARAM2: 2KV; ASSEMBLY: ASSEMBLY; VALUE: 4.7nF
footprint C_PLY_19X8 (CAP, POLYESTER, 19.0X8.0mm pitch: 15.0mm, 0.22uF 400V)
pins: 1, 2

## CAP_THD_FILMPLY_10N630V
designator C?, comment 10nF
CAP, FILM, 10nF, 630V; MANF_P#: MANF_PART#; PARAM: 630V; PRICE: 100= 1$; DESC: CAP, FILM,; MANF: MANF; PARAM2: PARAM2; ASSEMBLY: ASSEMBLY; VALUE: 10nF
footprint C_PLY_13X5 (Footprint not found)
pins: 1, 2

## CAP_THD_FILMPLY_100N400V
designator C?, comment 100nF
CAP, FILM, 330nF, 400V; MANF_P#: MANF_PART#; PARAM: 400V; PRICE: 100= 1$; DESC: CAP, FILM,; MANF: MANF; PARAM2: PARAM2; ASSEMBLY: ASSEMBLY; VALUE: 100nF
footprint C_PLY_9X6 (Footprint not found)
pins: 1, 2

## CAP_THD_FILMPLY_220N400V
designator C?, comment 220nF
CAP, FILM, 220nF, 400V; MANF_P#: MANF_PART#; PARAM: 400V; PRICE: 100= 1$; DESC: CAP, FILM,; MANF: MANF; PARAM2: PARAM2; ASSEMBLY: ASSEMBLY; VALUE: 220nF
footprint C_PLY_19X8 (CAP, POLYESTER, 19.0X8.0mm pitch: 15.0mm, 0.22uF 400V)
pins: 1, 2

## CAP_THD_FILMPLY_330N400V
designator C?, comment 330nF
CAP, FILM, 330nF, 400V; MANF_P#: MANF_PART#; PARAM: 400V; PRICE: 100= 1$; DESC: CAP, FILM,; MANF: MANF; PARAM2: PARAM2; ASSEMBLY: ASSEMBLY; VALUE: 330nF
footprint C_PLY_24X6 (CAP, POLYESTER, 23.8X5.8mm pitch: 20.0mm, 0.33uF 400V)
pins: 1, 2

## CAP_THD_FILMPLY_680N400V
designator C?, comment 680nF
CAP, FILM, 330nF, 400V; MANF_P#: MANF_PART#; PARAM: 400V; PRICE: 100= 1$; DESC: CAP, FILM,; MANF: MANF; PARAM2: PARAM2; ASSEMBLY: ASSEMBLY; VALUE: 680nF
footprint C_PLY_22X7 (CAP, POLYESTER, 33.0X7.0mm pitch: 20.0mm, 0.68uF 400V)
pins: 1, 2

## CONN_JTAG_ARM_20
designator J?, comment CONN_JTAG
CONN, JTAG, ARM, 20P; VALUE: CONN_JTAG
footprint IDC_2X10
pins: 1 VCC, 2 VCC, 3 TRST, 4 GND, 5 TDI, 6 GND, 7 TMS/SWDIO, 8 GND, 9 TCK/SWCLK, 10 GND, 11 RTCK, 12 GND, 13 TDO/SWO, 14 GND, 15 RESET, 16 GND, 17 NC, 18 GND, 19 NC, 20 GND

## CONN_PWR_JACKR2
designator J?, comment DC_POWER_JACK  (value not drawn)
CONN, PWR JACK DC, PLUG DIAM 2.0MM RA THD; MANF: CUI STACK; MANF_P#: PJ-202A, PJ-002AH, PJ-102AH, KLDX-0202; VALUE: DC_POWER_JACK
footprint JAC_PWR2 (DC POWER JACK, Power Jack KLDX-0202)
pins: 1 TIP (power), 2 SLEEVE (power), 3 INSERTION_DET (power)

## CONN_SWD
designator J?
CONN, SWD, ST; VALUE: CONN_SWD
footprint WF_4 (DS1070  WF, Cvilux CI31 pitch 2.54mm)
pins: 1 VCC, 2 SWDCK, 3 GND, 4 SWDIO
text: SWD

## DIODE_Bridge TOTAL SIZE
designator D?
Full Wave Diode Bridge; Designer: Abbas Basereh; Design Date: 1395/11/09; ComponentLink1Description: Datasheet; ComponentLink2Description: Reference; Mounting Technology: Surface Mount\Through-Hole; Status: Unreleased
footprint Bridge KBJ PACKAGE (KBJ Bridge Rectifiers DESIGNER :ABBAS BASEREH)
footprint Bridge KBL PACKAGE (KBL Bridge Rectifiers DESIGNER :ABBAS BASEREH)
footprint Bridge KBU PACKAGE (KBU Bridge Rectifiers DESIGNER :ABBAS BASEREH)
footprint Bridge WOB PACKAGE (WOB Bridge Rectifiers DESIGNER :ABBAS BASEREH)
footprint Bridge GBU PACKAGE (GBU Bridge Rectifiers DESIGNER :ABBAS BASEREH)
footprint Bridge KBP PACKAGE (KBP Bridge Rectifiers DESIGNER :ABBAS BASEREH)
pins: 1 +, 2 AC, 3 AC, 4 -

## DIODE_SMD_1N4001
designator D?, comment 1N4001
DIODE, GENERAL PURPOSE, 50V/1A; DESC: DESCRIPTION; PARAM: 50V VRRM; PARAM2: 1A; MANF: MANF; ASSEMBLY: ASSEMBLY; PRICE: PRICE; MANF_P#: 1N4001; VALUE: 1N4001
footprint D_SMA (SMA Molded Diode, 2-Leads, Body 4.3x2.7mm)
pins: 1, 2

## DIODE_SMD_1N4002
designator D?, comment 1N4002
DIODE, GENERAL PURPOSE, 100V/1A; DESC: DESCRIPTION; PARAM: 100V VRRM; PARAM2: 1A; MANF: MANF; ASSEMBLY: ASSEMBLY; PRICE: PRICE; MANF_P#: 1N4002; VALUE: 1N4002
footprint D_SMA (SMA Molded Diode, 2-Leads, Body 4.3x2.7mm)
pins: 1, 2

## DIODE_SMD_1N4003
designator D?, comment 1N4003
DIODE, GENERAL PURPOSE, 200V/1A; DESC: DESCRIPTION; PARAM: 200V VRRM; PARAM2: 1A; MANF: MANF; ASSEMBLY: ASSEMBLY; PRICE: PRICE; MANF_P#: 1N4003; VALUE: 1N4003
footprint D_SMA (SMA Molded Diode, 2-Leads, Body 4.3x2.7mm)
pins: 1, 2

## DIODE_SMD_1N4004
designator D?, comment 1N4004
DIODE, GENERAL PURPOSE, 400V/1A; DESC: DESCRIPTION; PARAM: 400V VRRM; PARAM2: 1A; MANF: MANF; ASSEMBLY: ASSEMBLY; PRICE: PRICE; MANF_P#: 1N4004; VALUE: 1N4004
footprint D_SMA (SMA Molded Diode, 2-Leads, Body 4.3x2.7mm)
pins: 1, 2

## DIODE_SMD_1N4007
designator D?, comment 1N4007
DIODE, GENERAL PURPOSE, 1000V/1A; MANF: Kingtronics; DESC: DESCRIPTION; PARAM: 1000V VRRM; PARAM2: 1A; MANF_P#: M7; ASSEMBLY: ASSEMBLY; PRICE: PRICE; VALUE: 1N4007
footprint D_SMA (SMA Molded Diode, 2-Leads, Body 4.3x2.7mm)
pins: 1, 2

## DIODE_SMD_1N4007_1
designator D?, comment 1N4007
DIODE, GENERAL PURPOSE, 1000V/1A; MANF: Kingtronics; DESC: DESCRIPTION; PARAM: 1000V VRRM; PARAM2: 1A; MANF_P#: M7; ASSEMBLY: ASSEMBLY; PRICE: PRICE; VALUE: 1N4007
footprint D_SMA (SMA Molded Diode, 2-Leads, Body 4.3x2.7mm)
pins: 1, 2

## DIODE_SMD_1N4148_SOD80
designator D?, comment 1N4148
DIODE, FAST SWTICHING, 0.3A, 0.5W; DESC: DESCRIPTION; PARAM: 75V; PARAM2: 300mA, 0.5W; MANF: MANF; ASSEMBLY: ASSEMBLY; PRICE: PRICE; MANF_P#: 1N4148; VALUE: 1N4148
footprint D_SOD80 (SOD-80 MINI-MELF 3.6X1.6mm, LL-34, LL4148)
pins: 1, 2

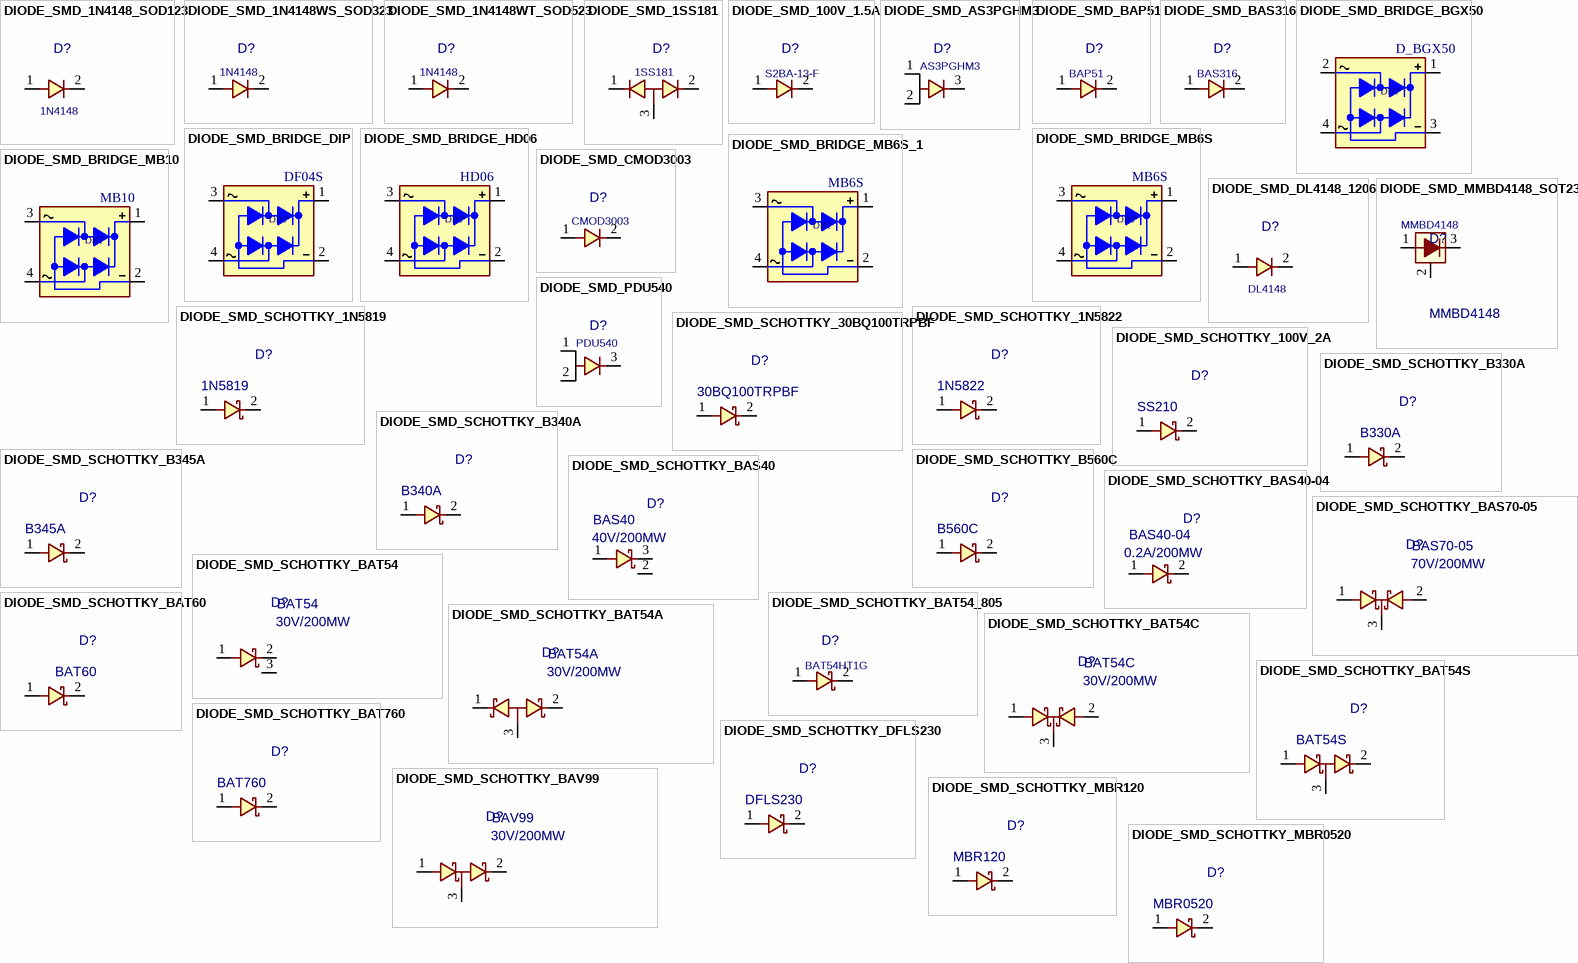
[diagram p3: symbols DIODE_SMD_1N4148_SOD123 to DIODE_SMD_SCHOTTKY_MBR0520]

## DIODE_SMD_1N4148_SOD123
designator D?, comment 1N4148
DIODE, FAST SWTICHING, SMD; DESC: DESCRIPTION; PARAM: 300mA; PARAM2: 100V, 460MW; MANF_P#: 1N4148W; MANF: DIODE; ASSEMBLY: ASSEMBLY; PRICE: PRICE; VALUE: 1N4148
footprint D_SOD123W (PowerDI-123, SOD123, DO-213AA, 1206D)
pins: 1, 2

## DIODE_SMD_1N4148WS_SOD323
designator D?, comment 1N4148
DIODE, FAST SWTICHING, 0.2A; MANF: Diodes; DESC: DESCRIPTION; PARAM: 200~300mA; PARAM2: 75V; MANF_P#: 1N4148WS; ASSEMBLY: ASSEMBLY; PRICE: 0.2$; VALUE: 1N4148
footprint D_SOD323 (DIODE0805, SOD-323, SC-76, DL-35, 0805 similar size)
pins: 1, 2

## DIODE_SMD_1N4148WT_SOD523
designator D?, comment 1N4148
DIODE, FAST SWTICHING, 0.2A; MANF: Diodes, MCC; DESC: DESCRIPTION; PARAM: 200~300mA; PARAM2: 75V; MANF_P#: 1N4148X-TP, 1N4148WT-7, 1N4148WTQ-7; ASSEMBLY: ASSEMBLY; PRICE: 0.2$; VALUE: 1N4148
footprint D_SOD523 (SOD523 SC-79 Molded Diode, 2-Leads, 1.2x0.8mm)
pins: 1, 2

## DIODE_SMD_1SS181
designator D?, comment 1SS181
DIODE, DUAL, HIGH SPEED SWITCHING, 80V, 0.1A; MANF: THOSHIBA; DESC: DESCRIPTION; ASSEMBLY: ASSEMBLY; PRICE: PRICE; PARAM: 80V; PARAM2: 0.1A; MANF_P#: 1SS181; VALUE: 1SS181
footprint SOT23_3 (SOT-23, Micro3, MO-178, TO-236AB, MO-193C, SuperSOT3, SC-59, DSO190_3_300X150)
pins: 1, 2, 3

## DIODE_SMD_100V_1.5A
designator D?, comment S2BA-13-F
DIODE, GENERAL PURPOSE, 100V, 1.5A, SMA; MANF: Diodes; DESC: DESCRIPTION; ASSEMBLY: ASSEMBLY; PRICE: PRICE; PARAM: 100V; PARAM2: 1.5A; MANF_P#: S2BA-13-F; VALUE: S2BA-13-F
footprint D_SMA (SMA Molded Diode, 2-Leads, Body 4.3x2.7mm)
pins: 1, 2

## DIODE_SMD_AS3PGHM3
designator D?, comment AS3PGHM3
DIODE, FAST, 3A, 400V; MANF: VISHAY; DESC: DESCRIPTION; PARAM: 3A, -55~175oC; MANF_P#: AS3PGHM3_A/H; ASSEMBLY: ASSEMBLY; PRICE: 1$; PARAM2: 400V; VALUE: AS3PGHM3
footprint D_SMPC (SMPC TO-277A, Body 6.1x4.6mm)
pins: 1 A1, 2 A2, 3 CATHODE

## DIODE_SMD_BAP51
designator D?, comment BAP51
DIODE, PIN, 50V/0.05A, SOD-323; MANF: NXP; DESC: A5 marking; PARAM: 50V VRRM, 1.1Vf; PARAM2: 0.05A, -65~150oC; MANF_P#: BAP51-03; ASSEMBLY: ASSEMBLY; PRICE: 0.4$; VALUE: BAP51
footprint D0805 (DIODE0805, SOD323 (PHILIPS), SC-76 (JEITA), DL-35)
pins: 1, 2

## DIODE_SMD_BAS316
designator D?, comment BAS316
DIODE, HiSP SW, 100V/0.25A, SOD-323; MANF: Nexperia; DESC: A6 marking; PARAM: 100V VRRM, 1.25Vf; PARAM2: 0.25A, -50~150oC; ASSEMBLY: ASSEMBLY; PRICE: 0.2$; MANF_P#: BAS316; VALUE: BAS316
footprint D0805 (DIODE0805, SOD323 (PHILIPS), SC-76 (JEITA), DL-35)
pins: 1, 2

## DIODE_SMD_BRIDGE_BGX50
designator DB?, comment D_BGX50
DIODE, BRIDGE, SMD, 50V, 140mA,; MANF: Infineon; MANF_P#: BGX50AE6327; PARAM: 50V, 140mA; VALUE: D_BGX50
footprint SOT143_4 (SC-74A , SOT143, TO-253A, DSO190_4_300X150, LAT-3/MMM168, MW-4)
pins: 1 DCOUT+, 2 ACIN1, 3 DCOUT-, 4 ACIN2

## DIODE_SMD_BRIDGE_DIP
designator DB?, comment DF04S
DIODE, BRIDGE,; VALUE: DF04S
footprint DBRG_DIPSMD (BRIDGE RECTIFIER, pitch: 5.08mm, 8X6mm, DB-S, DF005S)
pins: 1 DCOUT+, 2 DCOUT-, 3 ACIN2, 4 ACIN1

## DIODE_SMD_BRIDGE_HD06
designator DB?, comment HD06
DIODE, BRIDGE,; PARAM2: 600v; PARAM: 0.5A; MANF_P#: HD06; VALUE: HD06
footprint DBRG_DIPSMD_MINI (MDB, MBS, TO-269AA, pitch:2.54mm, 4.8x3.8mm)
pins: 1 DCOUT+, 2 DCOUT-, 3 ACIN2, 4 ACIN1

## DIODE_SMD_BRIDGE_MB6S
designator DB?, comment MB6S
DIODE, BRIDGE,; PARAM2: 600v; PARAM: 0.5A; MANF_P#: MB6S; VALUE: MB6S
footprint DBRG_DIPSMD_MINI (MDB, MBS, TO-269AA, pitch:2.54mm, 4.8x3.8mm)
pins: 1 DCOUT+, 2 DCOUT-, 3 ACIN2, 4 ACIN1

## DIODE_SMD_BRIDGE_MB6S_1
designator DB?, comment MB6S
DIODE, BRIDGE,; PARAM2: 600v; PARAM: 0.5A; MANF_P#: MB6S; VALUE: MB6S
footprint DBRG_DIPSMD_MINI (MDB, MBS, TO-269AA, pitch:2.54mm, 4.8x3.8mm)
pins: 1 DCOUT+, 2 DCOUT-, 3 ACIN2, 4 ACIN1

## DIODE_SMD_BRIDGE_MB10
designator DB?, comment MB10
DIODE, BRIDGE, SMD; MANF: MCC, DIODES; MANF_P#: MB10F, MB10S; PARAM2: 1000V; PARAM: 0.5A; VALUE: MB10
footprint DBRG_DIPSMD (BRIDGE RECTIFIER, pitch: 5.08mm, 8X6mm, DB-S, DF005S)
pins: 1 DCOUT+, 2 DCOUT-, 3 ACIN2, 4 ACIN1

## DIODE_SMD_CMOD3003
designator D?, comment CMOD3003
DIODE, FAST SWTICHING, 0.6A, 0.25W; MANF: CENTRAL SEMI; DESC: DESCRIPTION; PARAM: 180V; ASSEMBLY: ASSEMBLY; PRICE: PRICE; PARAM2: 0.6A, 0.25W; MANF_P#: CMOD3003; VALUE: CMOD3003
footprint D_SOD523 (SOD523 SC-79 Molded Diode, 2-Leads, 1.2x0.8mm)
pins: 1, 2

## DIODE_SMD_DL4148_1206
designator D?, comment DL4148
DIODE, FAST SWTICHING, SMD; DESC: DESCRIPTION; PARAM: 300mA; PARAM2: 100V, 460MW; MANF: MANF; ASSEMBLY: ASSEMBLY; PRICE: PRICE; MANF_P#: DL4148; VALUE: DL4148
footprint D1206 (SOD123, miniMELF, DO-213AA, MLL34, 320X160D)
pins: 1, 2

## DIODE_SMD_MMBD4148_SOT23
designator D?, comment MMBD4148
DIODE, FAST SWTICHING, SMT; MANF: Diodes, Inc.; PARAM: 75V; DESC: DESCRIPTION; PARAM2: 0.3A; MANF_P#: MMBD4148; ASSEMBLY: ASSEMBLY; PRICE: PRICE; VALUE: MMBD4148
footprint SOT23_3 (SOT-23, Micro3, MO-178, TO-236AB, MO-193C, SuperSOT3, SC-59, DSO190_3_300X150)
pins: 1, 2 NC, 3 CATHODE

## DIODE_SMD_PDU540
designator D?, comment PDU540
DIODE, FAST, 5A, 400V; MANF: DIODES; DESC: DESCRIPTION; PARAM: 5A, -65~175oC; MANF_P#: PDU540-13; ASSEMBLY: ASSEMBLY; PRICE: 1.2$; PARAM2: 400V; VALUE: PDU540
footprint D_SMPC (SMPC TO-277A, Body 6.1x4.6mm)
pins: 1 A1, 2 A2, 3 CATHODE

## DIODE_SMD_SCHOTTKY_1N5819
designator D?, comment 1N5819
DIODE, SCHOTTKY, 40V, 1A; MANF: DIODES; MANF_P#: 1N5819HW-7-F; DESC: DESCRIPTION; ASSEMBLY: ASSEMBLY; PRICE: PRICE; PARAM2: 1A; PARAM: 40V; VALUE: 1N5819
footprint D_SOD123W (1206D, SOD123, miniMELF, DO-213AA, MLL34, 320X160D)
pins: 1, 2

## DIODE_SMD_SCHOTTKY_1N5822
designator D?, comment 1N5822
DIODE, SCHOTTKY, 40V, 3A; MANF: DIODES; DESC: DESCRIPTION; MANF_P#: 1N5822; ASSEMBLY: ASSEMBLY; PRICE: PRICE; PARAM2: 3A; PARAM: 40V; VALUE: 1N5822
footprint D_SMA (SMA Molded Diode, 2-Leads, Body 4.3x2.7mm)
pins: 1, 2

## DIODE_SMD_SCHOTTKY_30BQ100TRPBF
designator D?, comment 30BQ100TRPBF
DIODE, SCHOTTKY, 100V, 3A; MANF: Vishay; DESC: DESCRIPTION; MANF_P#: 30BQ100TRPBF; ASSEMBLY: ASSEMBLY; PRICE: PRICE; PARAM2: 3A; PARAM: 100V; VALUE: 30BQ100TRPBF
footprint D_SMC (SMC, Molded Diode, 7.0x6.0mm)
pins: 1, 2

## DIODE_SMD_SCHOTTKY_100V_2A
designator D?, comment SS210
DIODE, SCHOTTKY, 100V, 2A; MANF: Micro Commercial; MANF_P#: SS210-TP, 10MQ100NPBF; DESC: DESCRIPTION; ASSEMBLY: ASSEMBLY; PRICE: PRICE; PARAM2: 2A; PARAM: 100V; VALUE: SS210
footprint D_SMB (SMB Molded Diode, 2-Leads, Body 4.3x3.5mm)
pins: 1, 2

## DIODE_SMD_SCHOTTKY_B330A
designator D?, comment B330A
DIODE, SCHOTTKY, 30V, 3A; MANF: Diodes; MANF_P#: B330A-13-F; DESC: DESCRIPTION; PARAM2: 30Vr, 0.5Vf; ASSEMBLY: ASSEMBLY; PRICE: 0.46$; PARAM: 3A; VALUE: B330A
footprint D_SMA (SMA Molded Diode, 2-Leads, Body 4.3x2.7mm)
pins: 1, 2

## DIODE_SMD_SCHOTTKY_B340A
designator D?, comment B340A
DIODE, SCHOTTKY, 40V, 3A; MANF: DIODES; DESC: DESCRIPTION; MANF_P#: B340A; ASSEMBLY: ASSEMBLY; PRICE: PRICE; PARAM2: 3A; PARAM: 40V; VALUE: B340A
footprint D_SMA (SMA Molded Diode, 2-Leads, Body 4.3x2.7mm)
pins: 1, 2

## DIODE_SMD_SCHOTTKY_B345A
designator D?, comment B345A
DIODE, SCHOTTKY, 40V, 3A; MANF: DIODES; MANF_P#: B345AE-13; DESC: DESCRIPTION; PARAM2: 45Vrrm, 0.45Vf; PARAM: 3A, -50~150oC; ASSEMBLY: ASSEMBLY; PRICE: 0.35$; VALUE: B345A
footprint D_SMA (SMA Molded Diode, 2-Leads, Body 4.3x2.7mm)
pins: 1, 2

## DIODE_SMD_SCHOTTKY_B560C
designator D?, comment B560C
DIODE, SCHOTTKY, 40V, 3A; MANF: DIODES; MANF_P#: B560C-13-F; DESC: DESCRIPTION; PARAM2: 5A; PARAM: 60V; ASSEMBLY: ASSEMBLY; PRICE: PRICE; VALUE: B560C
footprint D_SMC (SMC, Molded Diode, 7.0x6.0mm)
pins: 1, 2

## DIODE_SMD_SCHOTTKY_BAS40
designator D?, comment PARAM: 40V/200MW  (hidden comment: BAS40)
DIODE, SCHOTTKY, DUAL, 40V, 0.2A; MANF: Diodes; DESC: DESCRIPTION; MANF_P#: BAS40; ASSEMBLY: ASSEMBLY; PRICE: PRICE; PARAM2: 0.2A; VALUE: BAS40
footprint SOT23_3 (SOT-23, Micro3, MO-178, TO-236AB, MO-193C, SuperSOT3, DSO190_3_300X150)
pins: 1, 2, 3

## DIODE_SMD_SCHOTTKY_BAS40-04
designator D?, comment PARAM: 0.2A/200MW  (hidden comment: BAS40-04)
DIODE, SCHOTTKY, 40V, 0.2A; MANF: Diodes; MANF_P#: BAS40-04-TP; DESC: DESCRIPTION; PARAM2: 40V, -55~125oC; ASSEMBLY: ASSEMBLY; PRICE: PRICE; VALUE: BAS40-04
footprint D_SMB (SMB Molded Diode, 2-Leads, Body 4.3x3.5mm)
pins: 1, 2

## DIODE_SMD_SCHOTTKY_BAS70-05
designator D?, comment PARAM: 70V/200MW  (hidden comment: BAS70-05)
DIODE, SCHOTTKY, DUAL, 70V, 0.07A; MANF: Diodes; MANF_P#: BAS70-05-7-F; DESC: DESCRIPTION; ASSEMBLY: ASSEMBLY; PRICE: PRICE; PARAM2: 0.07A; VALUE: BAS70-05
footprint SOT23_3 (SOT-23, Micro3, MO-178, TO-236AB, MO-193C, SuperSOT3, DSO190_3_300X150)
pins: 1, 2, 3

## DIODE_SMD_SCHOTTKY_BAT54
designator D?, comment PARAM: 30V/200MW  (hidden comment: BAT54)
DIODE, SCHOTTKY, 30V, 0.2A; MANF: Diodes; DESC: DESCRIPTION; MANF_P#: BAT54; ASSEMBLY: ASSEMBLY; PRICE: PRICE; PARAM2: 0.2A; VALUE: BAT54
footprint SOT23_3 (SOT-23, Micro3, MO-178, TO-236AB, MO-193C, SuperSOT3, DSO190_3_300X150)
pins: 1, 2, 3

## DIODE_SMD_SCHOTTKY_BAT54_805
designator D?, comment BAT54HT1G
DIODE, SCHOTTKY, 40V, 1A; MANF: Fairchild; DESC: DESCRIPTION; PARAM2: 0.2A; PARAM: 30V; ASSEMBLY: ASSEMBLY; PRICE: PRICE; MANF_P#: BAT54HT1G; VALUE: BAT54HT1G
footprint D0805 (DIODE0805, SOD323 (PHILIPS), SC-76 (JEITA), DL-35)
pins: 1, 2

## DIODE_SMD_SCHOTTKY_BAT54A
designator D?, comment PARAM: 30V/200MW  (hidden comment: BAT54A)
DIODE, SCHOTTKY, DUAL, 30V, 0.2A; MANF: Diodes; DESC: DESCRIPTION; MANF_P#: BAT54A; ASSEMBLY: ASSEMBLY; PRICE: PRICE; PARAM2: 0.2A; VALUE: BAT54A
footprint SOT23_3 (SOT-23, Micro3, MO-178, TO-236AB, MO-193C, SuperSOT3, DSO190_3_300X150)
pins: 1, 2, 3

## DIODE_SMD_SCHOTTKY_BAT54C
designator D?, comment PARAM: 30V/200MW  (hidden comment: BAT54C)
DIODE, SCHOTTKY, DUAL, 30V, 0.2A; MANF: Diodes; MANF_P#: BAT54C-7-F; DESC: DESCRIPTION; ASSEMBLY: ASSEMBLY; PRICE: PRICE; PARAM2: 0.2A; VALUE: BAT54C
footprint SOT23_3 (SOT-23, Micro3, MO-178, TO-236AB, MO-193C, SuperSOT3, DSO190_3_300X150)
pins: 1, 2, 3

## DIODE_SMD_SCHOTTKY_BAT54S
designator D?, comment BAT54S
DIODE, SCHOTTKY, DUAL, 30V, 0.2A; MANF: Diodes, NXP; MANF_P#: BAT54SW; DESC: DESCRIPTION; PARAM: 30V/200MW; ASSEMBLY: ASSEMBLY; PRICE: 0.2$; PARAM2: 0.2A; VALUE: BAT54S
footprint SOT23_3 (SOT-23, Micro3, MO-178, TO-236AB, MO-193C, SuperSOT3, DSO190_3_300X150)
pins: 1, 2, 3

## DIODE_SMD_SCHOTTKY_BAT60
designator D?, comment BAT60
DIODE, SCHOTTKY, 10V, 3A, 0.3Vf; MANF: Infineon; MANF_P#: BAT60AE6327HTSA1; DESC: DESCRIPTION; PARAM2: VFdrop: 0.1V@10mA, 0.22V@1A; PARAM: 3A, 1.35W, -55~85oC; ASSEMBLY: ASSEMBLY; PRICE: 0.4$; VALUE: BAT60
footprint D_SOD323 (DIODE0805, SOD-323, SC-76, DL-35, 0805 similar size)
pins: 1, 2

## DIODE_SMD_SCHOTTKY_BAT760
designator D?, comment BAT760
DIODE, SCHOTTKY, 20V, 1A; MANF: NXP; MANF_P#: BAT760,115; DESC: DESCRIPTION; ASSEMBLY: ASSEMBLY; PRICE: PRICE; PARAM2: 1A; PARAM: 20V; VALUE: BAT760
footprint D_SOD323 (DIODE0805, SOD-323, SC-76, DL-35, 0805 similar size)
pins: 1, 2

## DIODE_SMD_SCHOTTKY_BAV99
designator D?, comment PARAM: 30V/200MW  (hidden comment: BAV99)
DIODE, SCHOTTKY, DUAL, 30V, 0.2A; MANF: Diodes; DESC: DESCRIPTION; MANF_P#: BAV99; ASSEMBLY: ASSEMBLY; PRICE: PRICE; PARAM2: 0.2A; VALUE: BAV99
footprint SOT23_3 (SOT-23, Micro3, MO-178, TO-236AB, MO-193C, SuperSOT3, DSO190_3_300X150)
pins: 1, 2, 3

## DIODE_SMD_SCHOTTKY_DFLS230
designator D?, comment DFLS230
DIODE, SCHOTTKY, 30V, 2A; MANF: DIODES; MANF_P#: DFLS230LQ-7; DESC: DESCRIPTION; PARAM2: 30Vrrm, 0.375Vf; PARAM: 2A, -40~125oC; ASSEMBLY: ASSEMBLY; PRICE: 0.7$; VALUE: DFLS230
footprint D_SOD123W (1206D, SOD123, miniMELF, DO-213AA, MLL34, 320X160D)
pins: 1, 2

## DIODE_SMD_SCHOTTKY_MBR120
designator D?, comment MBR120
DIODE, SCHOTTKY, 20V, 1A; MANF: NXP; MANF_P#: MBR120LSFT1G; DESC: DESCRIPTION; ASSEMBLY: ASSEMBLY; PRICE: PRICE; PARAM2: 1A; PARAM: 20V; VALUE: MBR120
footprint D1206 (SOD123, miniMELF, DO-213AA, MLL34, 320X160D)
pins: 1, 2

## DIODE_SMD_SCHOTTKY_MBR0520
designator D?, comment MBR0520
DIODE, SCHOTTKY, 20V, 0.5A; MANF: ON; MANF_P#: MBR0520LT1G; DESC: DESCRIPTION; ASSEMBLY: ASSEMBLY; PRICE: PRICE; PARAM2: 0.5A; PARAM: 20V; VALUE: MBR0520
footprint D_SOD123W (1206D, SOD123, miniMELF, DO-213AA, MLL34, 320X160D)
pins: 1, 2

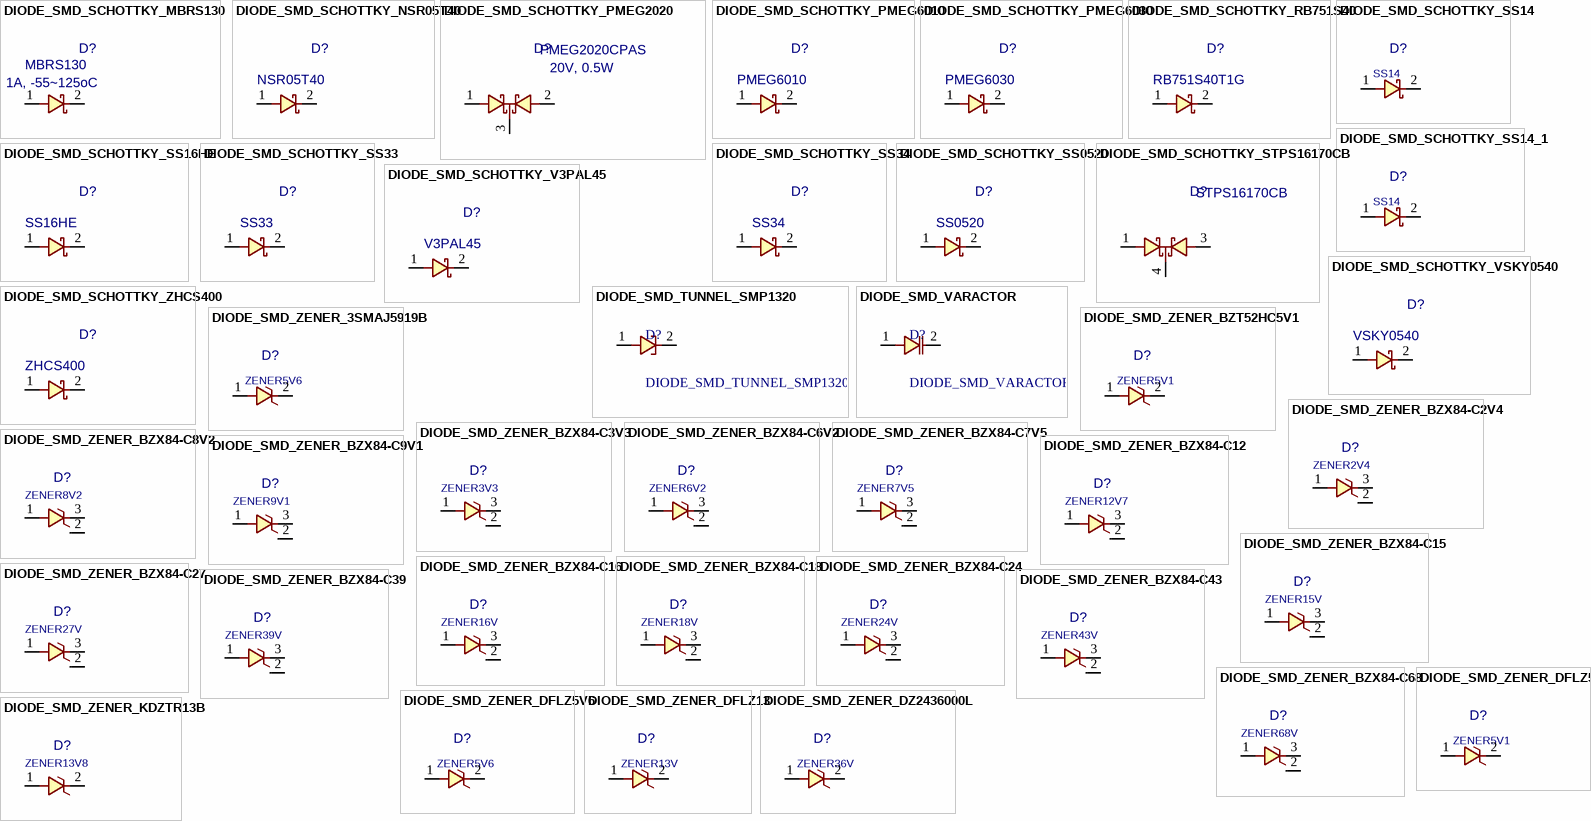
[diagram p4: symbols DIODE_SMD_SCHOTTKY_MBRS130 to DIODE_SMD_ZENER_KDZTR13B]

## DIODE_SMD_SCHOTTKY_MBRS130
designator D?, comment PARAM: 1A, -55~125oC  (hidden comment: MBRS130)
DIODE, SCHOTTKY, 30V, 1A; MANF: Vishay, Diodes; MANF_P#: MBRS130L; DESC: DESCRIPTION; ASSEMBLY: ASSEMBLY; PRICE: PRICE; PARAM2: 30V; VALUE: MBRS130
footprint D_SMB (SMB Molded Diode, 2-Leads, Body 4.3x3.5mm)
pins: 1, 2

## DIODE_SMD_SCHOTTKY_NSR05T40
designator D?, comment NSR05T40
DIODE, SCHOTTKY, 40V, 0.5A; MANF: ON Semiconductor; MANF_P#: NSR05T40P2T5G; DESC: DESCRIPTION; PARAM2: 40V, 0.58Vf; PARAM: 0.5A, -55~150oC; ASSEMBLY: ASSEMBLY; PRICE: 0.4$; VALUE: NSR05T40
footprint D_SOD923 (SOD-923 2-Leads, Body 0.60x.8mm)
pins: 1, 2

## DIODE_SMD_SCHOTTKY_PMEG2020
designator D?, comment PARAM: 20V, 0.5W  (hidden comment: PMEG2020CPAS)
DIODE, SCHOTTKY, DUAL, 0.4VF, 20V, 2A; MANF: NEXPERIA; DESC: DESCRIPTION; MANF_P#: PMEG2020CPAS; ASSEMBLY: ASSEMBLY; PRICE: PRICE; PARAM2: 2A; VALUE: PMEG2020CPAS
footprint DFN2020_3 (DFN2020D-3, SOT1061D, Body 2X2X0.65mm,)
pins: 1, 2, 3

## DIODE_SMD_SCHOTTKY_PMEG6010
designator D?, comment PMEG6010
DIODE, SCHOTTKY, 60V, 1A; MANF: NEXPERIA; MANF_P#: PMEG6010AESB; DESC: DESCRIPTION; PARAM2: 60Vrrm, 0.6Vf; PARAM: 1A, -65~150oC; ASSEMBLY: ASSEMBLY; PRICE: 0.4$; VALUE: PMEG6010
footprint D1006 (DIODE, CLP1006-2, 1X0.6mm)
pins: 1, 2

## DIODE_SMD_SCHOTTKY_PMEG6030
designator D?, comment PMEG6030
DIODE, SCHOTTKY, 60V, 3A; MANF: NEXPERIA; MANF_P#: PMEG6030EP; DESC: DESCRIPTION; PARAM2: 60Vrrm, 0.4Vf; PARAM: 3A, -65~150oC; ASSEMBLY: ASSEMBLY; PRICE: 0.4$; VALUE: PMEG6030
footprint D_SMA (SMA Molded Diode, 2-Leads, Body 4.3x2.7mm, SOD-128)
pins: 1, 2

## DIODE_SMD_SCHOTTKY_RB751S40
designator D?, comment RB751S40T1G
DIODE, SCHOTTKY, 40V, 0.03A; MANF: ON Semiconductor; DESC: DESCRIPTION; MANF_P#: RB751S40T1G; ASSEMBLY: ASSEMBLY; PRICE: PRICE; PARAM2: 0.03A; PARAM: 40V; VALUE: RB751S40T1G
footprint D_SOD523 (SOD523 SC-79 Molded Diode, 2-Leads, 1.2x0.8mm)
pins: 1, 2

## DIODE_SMD_SCHOTTKY_SS14
designator D?, comment SS14
DIODE, SCHOTTKY, 40V, 1A; MANF: Vishay; DESC: DESCRIPTION; MANF_P#: SS14-E3; ASSEMBLY: ASSEMBLY; PRICE: PRICE; PARAM2: 1A; PARAM: 40V; VALUE: SS14
footprint D_SMB (SMB Molded Diode, 2-Leads, Body 4.3x3.5mm)
pins: 1, 2

## DIODE_SMD_SCHOTTKY_SS14_1
designator D?, comment SS14
DIODE, SCHOTTKY, 40V, 1A; MANF: Vishay; DESC: DESCRIPTION; MANF_P#: SS14-E3; ASSEMBLY: ASSEMBLY; PRICE: PRICE; PARAM2: 1A; PARAM: 40V; VALUE: SS14
footprint D_SMB (SMB Molded Diode, 2-Leads, Body 4.3x3.5mm)
pins: 1, 2

## DIODE_SMD_SCHOTTKY_SS16HE
designator D?, comment SS16HE
DIODE, SCHOTTKY, 60V, 1A; MANF: ON; DESC: DESCRIPTION; PARAM2: 60V, -55~150oC; MANF_P#: SS16HE; ASSEMBLY: ASSEMBLY; PRICE: 0.4$; PARAM: 1A; VALUE: SS16HE
footprint D_SOD323 (DIODE0805, SOD-323, SC-76, DL-35, 0805 similar size)
pins: 1, 2

## DIODE_SMD_SCHOTTKY_SS33
designator D?, comment SS33
DIODE, SCHOTTKY, 30V, 3A; MANF: VISHAY; MANF_P#: SS33HE3_A/H; DESC: DESCRIPTION; PARAM2: 30Vr, 0.5Vf; ASSEMBLY: ASSEMBLY; PRICE: 0.6$; PARAM: 3A; VALUE: SS33
footprint D_SMC (SMC, Molded Diode, 7.0x6.0mm)
pins: 1, 2

## DIODE_SMD_SCHOTTKY_SS34
designator D?, comment SS34
DIODE, SCHOTTKY, 20V, 3A; MANF: VISHAY; DESC: DESCRIPTION; MANF_P#: SS34; ASSEMBLY: ASSEMBLY; PRICE: PRICE; PARAM2: 3A; PARAM: 20V; VALUE: SS34
footprint D_SMB (SMB Molded Diode, 2-Leads, Body 4.3x3.5mm)
pins: 1, 2

## DIODE_SMD_SCHOTTKY_SS0520
designator D?, comment SS0520
DIODE, SCHOTTKY, 20V, 0.5A; MANF: Fairchild; DESC: DESCRIPTION; MANF_P#: SS0520; ASSEMBLY: ASSEMBLY; PRICE: PRICE; PARAM2: 0.5A; PARAM: 20V; VALUE: SS0520
footprint D_SOD123W (1206D, SOD123, miniMELF, DO-213AA, MLL34, 320X160D)
pins: 1, 2

## DIODE_SMD_SCHOTTKY_STPS16170CB
designator D?, comment STPS16170CB
DIODE, SCHOTTKY, DUAL, 170V, 2x8A; MANF: ST; DESC: DESCRIPTION; PARAM: 16A; MANF_P#: STPS16170CB; ASSEMBLY: ASSEMBLY; PRICE: 1$; PARAM2: 170v; VALUE: STPS16170CB
footprint DPAK_3 (D-PAK (TO-252), 3-Pads, Body 6.2x6.7mm)
pins: 1 A1, 3 A3, 4 CATHODE

## DIODE_SMD_SCHOTTKY_V3PAL45
designator D?, comment V3PAL45
DIODE, SCHOTTKY, 45V, 3A; MANF: VISHAY; MANF_P#: V3PAL45HM3_A/I; DESC: DESCRIPTION; PARAM2: 45Vr, 0.46Vf; PARAM: 3A, -40~150oC; ASSEMBLY: ASSEMBLY; PRICE: 0.6$; VALUE: V3PAL45
footprint D_SMB (SMB Molded Diode, 2-Leads, Body 4.3x3.5mm)
pins: 1, 2

## DIODE_SMD_SCHOTTKY_VSKY0540
designator D?, comment VSKY0540
DIODE, SCHOTTKY, 40V, 0.5A; MANF: Vishay; MANF_P#: VSKY05401006-G4-08; DESC: DESCRIPTION; PARAM2: 40Vrrm, 0.425Vf; PARAM: 0.5A, -65~150oC; ASSEMBLY: ASSEMBLY; PRICE: 0.4$; VALUE: VSKY0540
footprint D1006 (DIODE, CLP1006-2, 1X0.6mm)
pins: 1, 2